# Altium integrated library Actel Axcelerator.IntLib: 162 symbols (part 27 of 42)
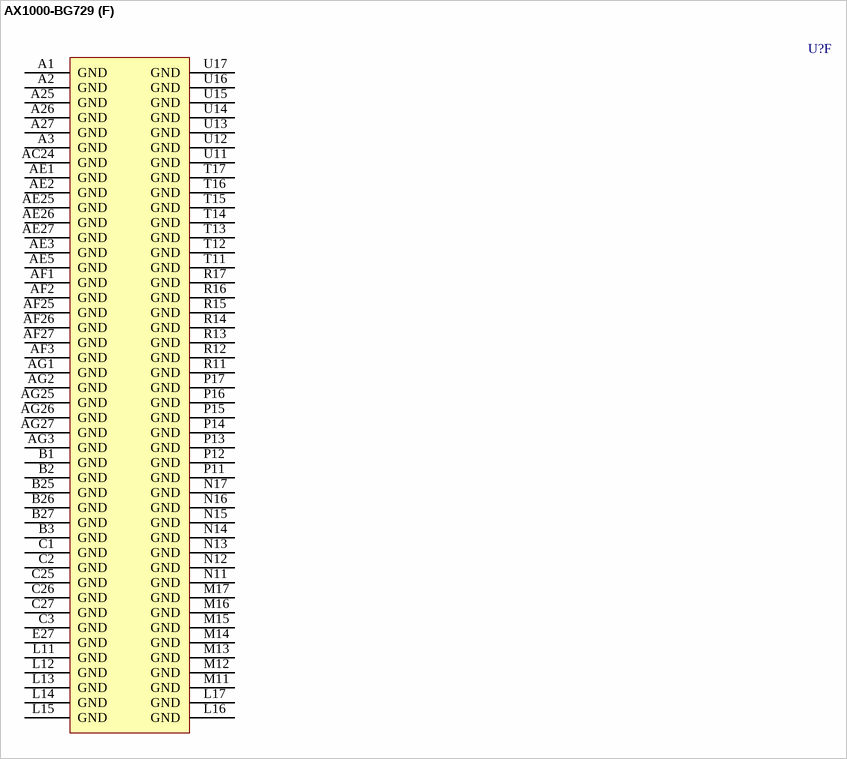
[diagram p425: symbol AX1000-BG729]

## AX1000-BG729
designator U?
Axcelerator AX1000 FPGA, 516 I/Os, 729-Pin PBGA, Speed Grade 1, Commercial Grade; DatasheetVersion: v2.8, Oct-2009; PackageVersion: ver11.2, Nov-2009; PackageReference: BG729; PackageDescription: 729-Ball Plastic Ball Grid Array (BG729); Code_JEDEC: MS-034-BAR-1; Code_IPC: BGA127P27X27-729; ComponentLink1Description: Manufacturer URL; ComponentLink1URL: http://www.actel.com/; ComponentLink2Description: Axcelerator Datasheet; ComponentLink2URL: http://www.actel.com/documents/AX_DS.pdf; ComponentLink3Description: Package Mechanical Drawings; ComponentLink3URL: http://www.actel.com/documents/PckgMechDrwngs.pdf; ComponentLink4Description: Axcelerator Documents; ComponentLink4URL: http://www.actel.com/products/axcelerator/docs.aspx
footprint BG729 (BGA, 729-Leads, Body 35x35mm, Pitch 1.27mm)
part A pins: A5 IO08PB0F0 (io), A6 IO08NB0F0 (io), A7 IO16PB0F1 (io), A8 IO16NB0F1 (io), A9 IO22PB0F2 (io), A10 IO22NB0F2 (io), A12 IO29NB0F2 (io), A16 IO34PB1F3 (io), A17 IO39PB1F3 (io), A18 IO39NB1F3 (io), A19 IO41PB1F4 (io), A20 IO46PB1F4 (io), A21 IO51PB1F4 (io), A22 IO51NB1F4 (io), A23 IO58PB1F5 (io), B5 IO07NB0F0 (io), B6 IO11PB0F0 (io), B7 IO11NB0F0 (io), B8 IO17PB0F1 (io), B9 IO17NB0F1 (io), B10 IO23PB0F2 (io), B11 IO23NB0F2 (io), B12 IO29PB0F2 (io), B14 IO32PB1F3/HCLKCP (io), B16 IO34NB1F3 (io), B17 IO38PB1F3 (io), B18 IO38NB1F3 (io), B19 IO41NB1F4 (io), B20 IO46NB1F4 (io), B21 IO52PB1F4 (io), B22 IO52NB1F4 (io), B23 IO58NB1F5 (io), C5 IO07PB0F0 (io), C6 IO06NB0F0 (io), C7 IO12PB0F1 (io), C8 IO12NB0F1 (io), C9 IO18PB0F1 (io), C10 IO18NB0F1 (io), C11 IO25PB0F2 (io), C12 IO25NB0F2 (io), C13 IO30NB0F2/HCLKAN (io), C14 IO32NB1F3/HCLKCN (io), C16 IO37PB1F3 (io), C17 IO37NB1F3 (io), C18 IO42PB1F4 (io), C19 IO42NB1F4 (io), C20 IO47PB1F4 (io), C21 IO47NB1F4 (io), C22 IO57PB1F5 (io), C23 IO59PB1F5 (io), D5 IO03NB0F0 (io), D6 IO06PB0F0 (io), D7 IO02NB0F0 (io), D8 IO15PB0F1 (io), D9 IO15NB0F1 (io), D10 IO21PB0F1 (io), D11 IO21NB0F1 (io), D12 IO26PB0F2 (io), D13 IO30PB0F2/HCLKAP (io), D15 IO33PB1F3/HCLKDP (io), D16 IO33NB1F3/HCLKDN (io), D17 IO43PB1F4 (io), D18 IO43NB1F4 (io), D19 IO50PB1F4 (io), D20 IO50NB1F4 (io), D21 IO55PB1F5 (io), D22 IO57NB1F5 (io), D23 IO59NB1F5 (io), E5 IO03PB0F0 (io), E6 IO00NB0F0 (io), E7 IO02PB0F0 (io), E8 IO05NB0F0 (io), E9 IO09NB0F0 (io), E10 IO13NB0F1 (io), E11 IO19NB0F1 (io), E12 IO26NB0F2 (io), E13 IO27NB0F2 (io), E14 IO31PB0F2/HCLKBP (io), E15 IO35NB1F3 (io), E17 IO45PB1F4 (io), E18 IO49PB1F4 (io), E19 IO53PB1F4 (io), E20 IO54PB1F5 (io), E21 IO55NB1F5 (io), E22 IO61PB1F5 (io), E23 IO61NB1F5 (io), F6 IO00PB0F0 (io), F8 IO05PB0F0 (io), F9 IO09PB0F0 (io), F10 IO13PB0F1 (io), F11 IO19PB0F1 (io), F13 IO27PB0F2 (io), F14 IO31NB0F2/HCLKBN (io), F15 IO35PB1F3 (io), F17 IO45NB1F4 (io), F18 IO49NB1F4 (io), F19 IO53NB1F4 (io), F20 IO54NB1F5 (io), F21 IO62PB1F5 (io), F22 IO62NB1F5 (io), G7 IO01PB0F0 (io), G8 IO01NB0F0 (io), G9 IO04NB0F0 (io), G10 IO10NB0F0 (io), G11 IO14NB0F1 (io), G12 IO20NB0F1 (io), G13 IO24NB0F2 (io), G14 IO28NB0F2 (io), G15 IO36PB1F3 (io), G16 IO40PB1F3 (io), G17 IO44PB1F4 (io), G18 IO48PB1F4 (io), G19 IO56PB1F5 (io), G20 IO60PB1F5 (io), G21 IO60NB1F5 (io), H9 IO04PB0F0 (io), H10 IO10PB0F0 (io), H11 IO14PB0F1 (io), H12 IO20PB0F1 (io), H13 IO24PB0F2 (io), H14 IO28PB0F2 (io), H15 IO36NB1F3 (io), H16 IO40NB1F3 (io), H17 IO44NB1F4 (io), H18 IO48NB1F4 (io), H19 IO56NB1F5 (io), H20 IO63NB1F5 (io), J19 IO63PB1F5 (io)
part B pins: AA22 IO126NB3F11 (io), AA23 IO126PB3F11 (io), AA24 IO121NB3F11 (io), AA25 IO121PB3F11 (io), AA26 IO119NB3F11 (io), AA27 IO119PB3F11 (io), AB24 IO125NB3F11 (io), AB25 IO125PB3F11 (io), AB26 IO123NB3F11 (io), AB27 IO123PB3F11 (io), AC26 IO127NB3F11 (io), AC27 IO127PB3F11 (io), E25 IO67PB2F6 (io), E26 IO67NB2F6 (io), F23 IO65PB2F6 (io), F24 IO65NB2F6 (io), F25 IO66PB2F6 (io), F26 IO66NB2F6 (io), F27 IO75PB2F7 (io), G23 IO69PB2F6 (io), G24 IO69NB2F6 (io), G25 IO71PB2F6 (io), G26 IO71NB2F6 (io), G27 IO75NB2F7 (io), H21 IO64PB2F6 (io), H22 IO68PB2F6 (io), H23 IO73PB2F6 (io), H24 IO73NB2F6 (io), H25 IO77PB2F7 (io), H26 IO77NB2F7 (io), H27 IO81PB2F7 (io), J20 IO70PB2F6 (io), J21 IO64NB2F6 (io), J22 IO68NB2F6 (io), J23 IO72PB2F6 (io), J24 IO72NB2F6 (io), J25 IO79PB2F7 (io), J26 IO79NB2F7 (io), J27 IO81NB2F7 (io), K20 IO70NB2F6 (io), K21 IO74PB2F7 (io), K22 IO76PB2F7 (io), K23 IO76NB2F7 (io), K24 IO78PB2F7 (io), K25 IO78NB2F7 (io), K26 IO85PB2F8 (io), K27 IO85NB2F8 (io), L20 IO80PB2F7 (io), L21 IO74NB2F7 (io), L22 IO82PB2F7 (io), L23 IO82NB2F7 (io), L24 IO83PB2F7 (io), L25 IO83NB2F7 (io), L26 IO88PB2F8 (io), L27 IO88NB2F8 (io), M20 IO80NB2F7 (io), M21 IO84PB2F7 (io), M22 IO86PB2F8 (io), M23 IO86NB2F8 (io), M24 IO87PB2F8 (io), M25 IO87NB2F8 (io), M26 IO89PB2F8 (io), M27 IO89NB2F8 (io), N19 IO94NB2F8 (io), N20 IO94PB2F8 (io), N21 IO84NB2F7 (io), N22 IO90PB2F8 (io), N23 IO90NB2F8 (io), N24 IO91PB2F8 (io), N25 IO91NB2F8 (io), N26 IO92PB2F8 (io), N27 IO92NB2F8 (io), P19 IO106PB3F9 (io), P20 IO98PB3F9 (io), P21 IO98NB3F9 (io), P22 IO95PB2F8 (io), P23 IO95NB2F8 (io), P24 IO96PB3F9 (io), P25 IO96NB3F9 (io), P26 IO93NB2F8 (io), P27 IO93PB2F8 (io), R19 IO106NB3F9 (io), R20 IO102NB3F9 (io), R21 IO102PB3F9 (io), R22 IO103PB3F9 (io), R23 IO103NB3F9 (io), R24 IO99NB3F9 (io), R25 IO99PB3F9 (io), R26 IO97NB3F9 (io), R27 IO97PB3F9 (io), T20 IO110NB3F10 (io), T21 IO110PB3F10 (io), T22 IO108PB3F10 (io), T23 IO108NB3F10 (io), T24 IO101NB3F9 (io), T25 IO101PB3F9 (io), T26 IO100NB3F9 (io), T27 IO100PB3F9 (io), U20 IO114NB3F10 (io), U21 IO114PB3F10 (io), U22 IO112NB3F10 (io), U23 IO112PB3F10 (io), U24 IO105NB3F9 (io), U25 IO105PB3F9 (io), U26 IO104NB3F9 (io), U27 IO104PB3F9 (io), V20 IO118NB3F11 (io), V21 IO118PB3F11 (io), V22 IO116NB3F10 (io), V23 IO116PB3F10 (io), V24 IO109NB3F10 (io), V25 IO109PB3F10 (io), V26 IO107NB3F10 (io), V27 IO107PB3F10 (io), W19 IO128PB3F11 (io), W20 IO122NB3F11 (io), W21 IO122PB3F11 (io), W22 IO120NB3F11 (io), W23 IO120PB3F11 (io), W24 IO115NB3F10 (io), W25 IO115PB3F10 (io), W26 IO111NB3F10 (io), W27 IO111PB3F10 (io), Y20 IO128NB3F11 (io), Y22 IO124NB3F11 (io), Y23 IO124PB3F11 (io), Y24 IO117NB3F10 (io), Y25 IO117PB3F10 (io), Y26 IO113NB3F10 (io), Y27 IO113PB3F10 (io)
part C pins: AA6 IO191NB5F17 (io), AA7 IO191PB5F17 (io), AA8 IO192PB5F17 (io), AA9 IO187PB5F17 (io), AA10 IO181PB5F17 (io), AA11 IO177PB5F16 (io), AA12 IO173PB5F16 (io), AA13 IO167PB5F15 (io), AA14 IO163PB5F15 (io), AA15 IO157PB4F14 (io), AA16 IO151NB4F13 (io), AA17 IO147PB4F13 (io), AA18 IO141PB4F13 (io), AA19 IO137PB4F12 (io), AA20 IO129NB4F12 (io), AB6 IO189NB5F17 (io), AB7 IO186NB5F17 (io), AB8 IO186PB5F17 (io), AB9 IO180NB5F16 (io), AB10 IO174NB5F16 (io), AB11 IO170NB5F15 (io), AB15 IO155NB4F14 (io), AB16 IO153PB4F14 (io), AB17 IO149PB4F13 (io), AB18 IO146PB4F13 (io), AB19 IO144PB4F13 (io), AB20 IO135PB4F12 (io), AB21 IO134PB4F12 (io), AB22 IO130NB4F12 (io), AB23 IO130PB4F12 (io), AC6 IO189PB5F17 (io), AC7 IO184NB5F17 (io), AC8 IO184PB5F17 (io), AC9 IO180PB5F16 (io), AC10 IO174PB5F16 (io), AC11 IO170PB5F15 (io), AC13 IO162NB5F15/CLKHN (io), AC15 IO155PB4F14 (io), AC16 IO153NB4F14 (io), AC17 IO149NB4F13 (io), AC18 IO146NB4F13 (io), AC19 IO144NB4F13 (io), AC20 IO135NB4F12 (io), AC21 IO134NB4F12 (io), AC22 IO131NB4F12 (io), AC23 IO131PB4F12 (io), AD6 IO188NB5F17 (io), AD7 IO183NB5F17 (io), AD8 IO179NB5F16 (io), AD9 IO176NB5F16 (io), AD10 IO172NB5F16 (io), AD11 IO168NB5F15 (io), AD12 IO166NB5F15 (io), AD13 IO162PB5F15/CLKHP (io), AD14 IO160NB4F14/CLKFN (io), AD15 IO160PB4F14/CLKFP (io), AD18 IO145NB4F13 (io), AD19 IO145PB4F13 (io), AD20 IO142PB4F13 (io), AD21 IO136NB4F12 (io), AD22 IO136PB4F12 (io), AD23 IO132NB4F12 (io), AD24 IO132PB4F12 (io), AE6 IO188PB5F17 (io), AE7 IO183PB5F17 (io), AE8 IO179PB5F16 (io), AE9 IO176PB5F16 (io), AE10 IO172PB5F16 (io), AE11 IO168PB5F15 (io), AE12 IO166PB5F15 (io), AE13 IO164NB5F15 (io), AE14 IO161NB5F15/CLKGN (io), AE15 IO161PB5F15/CLKGP (io), AE16 IO156NB4F14 (io), AE17 IO156PB4F14 (io), AE18 IO150NB4F13 (io), AE19 IO150PB4F13 (io), AE20 IO142NB4F13 (io), AE21 IO138NB4F12 (io), AE22 IO138PB4F12 (io), AE23 IO133PB4F12 (io), AF5 IO190NB5F17 (io), AF6 IO185NB5F17 (io), AF7 IO182NB5F17 (io), AF8 IO178NB5F16 (io), AF9 IO175NB5F16 (io), AF10 IO171NB5F16 (io), AF11 IO169PB5F15 (io), AF12 IO165NB5F15 (io), AF13 IO164PB5F15 (io), AF15 IO159NB4F14/CLKEN (io), AF16 IO159PB4F14/CLKEP (io), AF17 IO154NB4F14 (io), AF18 IO154PB4F14 (io), AF19 IO148NB4F13 (io), AF20 IO148PB4F13 (io), AF21 IO139NB4F13 (io), AF22 IO139PB4F13 (io), AF23 IO133NB4F12 (io), AG5 IO190PB5F17 (io), AG6 IO185PB5F17 (io), AG7 IO182PB5F17 (io), AG8 IO178PB5F16 (io), AG9 IO175PB5F16 (io), AG10 IO171PB5F16 (io), AG11 IO169NB5F15 (io), AG12 IO165PB5F15 (io), AG16 IO158NB4F14 (io), AG17 IO158PB4F14 (io), AG18 IO152NB4F14 (io), AG19 IO152PB4F14 (io), AG20 IO143NB4F13 (io), AG21 IO143PB4F13 (io), AG22 IO140NB4F13 (io), AG23 IO140PB4F13 (io), Y8 IO192NB5F17 (io), Y9 IO187NB5F17 (io), Y10 IO181NB5F17 (io), Y11 IO177NB5F16 (io), Y12 IO173NB5F16 (io), Y13 IO167NB5F15 (io), Y14 IO163NB5F15 (io), Y15 IO157NB4F14 (io), Y16 IO151PB4F13 (io), Y17 IO147NB4F13 (io), Y18 IO141NB4F13 (io), Y19 IO137NB4F12 (io), Y21 IO129PB4F12 (io)
part D pins: AA1 IO207PB6F19 (io), AA2 IO204NB6F19 (io), AA3 IO203PB6F19 (io), AA4 IO200NB6F18 (io), AA5 IO200PB6F18 (io), AB1 IO202NB6F18 (io), AB2 IO204PB6F19 (io), AB3 IO198NB6F18 (io), AB4 IO198PB6F18 (io), AB5 IO194NB6F18 (io), AC1 IO202PB6F18 (io), AC2 IO195NB6F18 (io), AC3 IO195PB6F18 (io), AC4 IO196NB6F18 (io), AC5 IO194PB6F18 (io), AD4 IO196PB6F18 (io), F1 IO253PB7F23 (io), F2 IO253NB7F23 (io), F3 IO256NB7F23 (io), F4 IO256PB7F23 (io), F5 IO255NB7F23 (io), G1 IO250PB7F23 (io), G2 IO250NB7F23 (io), G3 IO252PB7F23 (io), G4 IO252NB7F23 (io), G5 IO255PB7F23 (io), G6 IO254NB7F23 (io), H1 IO245PB7F22 (io), H2 IO245NB7F22 (io), H3 IO246PB7F22 (io), H4 IO246NB7F22 (io), H5 IO249NB7F23 (io), H6 IO254PB7F23 (io), H7 IO257NB7F23 (io), J1 IO243PB7F22 (io), J2 IO243NB7F22 (io), J3 IO244PB7F22 (io), J4 IO244NB7F22 (io), J5 IO249PB7F23 (io), J6 IO248NB7F23 (io), J7 IO257PB7F23 (io), K1 IO240PB7F22 (io), K2 IO240NB7F22 (io), K3 IO241PB7F22 (io), K4 IO241NB7F22 (io), K5 IO242NB7F22 (io), K6 IO248PB7F23 (io), K7 IO251PB7F23 (io), K8 IO251NB7F23 (io), L1 IO236PB7F22 (io), L2 IO236NB7F22 (io), L3 IO237PB7F22 (io), L4 IO237NB7F22 (io), L5 IO242PB7F22 (io), L6 IO238NB7F22 (io), L7 IO247PB7F23 (io), L8 IO247NB7F23 (io), M1 IO233PB7F21 (io), M2 IO233NB7F21 (io), M3 IO234PB7F21 (io), M4 IO234NB7F21 (io), M5 IO235NB7F21 (io), M6 IO238PB7F22 (io), M7 IO239PB7F22 (io), M8 IO239NB7F22 (io), N1 IO229PB7F21 (io), N2 IO229NB7F21 (io), N3 IO232PB7F21 (io), N4 IO232NB7F21 (io), N5 IO235PB7F21 (io), N6 IO230NB7F21 (io), N7 IO227NB7F21 (io), N8 IO231PB7F21 (io), N9 IO231NB7F21 (io), P1 IO225NB7F21 (io), P2 IO226PB7F21 (io), P3 IO226NB7F21 (io), P4 IO228PB7F21 (io), P5 IO228NB7F21 (io), P6 IO230PB7F21 (io), P7 IO227PB7F21 (io), P8 IO223NB6F20 (io), P9 IO223PB6F20 (io), R1 IO225PB7F21 (io), R2 IO222NB6F20 (io), R3 IO224NB6F20 (io), R4 IO224PB6F20 (io), R5 IO220NB6F20 (io), R6 IO220PB6F20 (io), R7 IO217NB6F20 (io), R8 IO217PB6F20 (io), R9 IO213NB6F19 (io), T1 IO219NB6F20 (io), T2 IO222PB6F20 (io), T3 IO221NB6F20 (io), T4 IO221PB6F20 (io), T5 IO215NB6F20 (io), T6 IO215PB6F20 (io), T7 IO209NB6F19 (io), T8 IO213PB6F19 (io), U1 IO219PB6F20 (io), U2 IO218NB6F20 (io), U4 IO214NB6F20 (io), U5 IO211NB6F19 (io), U6 IO211PB6F19 (io), U7 IO209PB6F19 (io), U8 IO205NB6F19 (io), V1 IO216NB6F20 (io), V2 IO218PB6F20 (io), V3 IO212NB6F19 (io), V4 IO214PB6F20 (io), V5 IO206NB6F19 (io), V6 IO206PB6F19 (io), V7 IO199NB6F18 (io), V8 IO205PB6F19 (io), W1 IO216PB6F20 (io), W2 IO210NB6F19 (io), W3 IO212PB6F19 (io), W4 IO208NB6F19 (io), W5 IO201NB6F18 (io), W6 IO201PB6F18 (io), W7 IO199PB6F18 (io), W8 IO193NB6F18 (io), Y1 IO207NB6F19 (io), Y2 IO210PB6F19 (io), Y3 IO203NB6F19 (io), Y4 IO208PB6F19 (io), Y5 IO197NB6F18 (io), Y6 IO197PB6F18 (io), Y7 IO193PB6F18 (io)
part E pins: A4 VCCIB0 (power), A11 VCCDA (power), A13 VCCPLA (power), A14 VCOMPLB (power), A15 VCOMPLC (power), A24 VCCIB1 (power), AA21 VCCA (power), AB12 VCCDA (power), AB13 VCCPLG (power), AB14 PRD (out), AC12 VCCDA (power), AC14 VCOMPLG (power), AC25 VCCDA (power), AD1 VCCIB6 (power), AD2 VCCIB6 (power), AD3 VCCIB6 (power), AD5 VCCA (power), AD16 VCCDA (power), AD17 VCCDA (power), AD25 VCCIB3 (power), AD26 VCCIB3 (power), AD27 VCCIB3 (power), AE4 VCCIB5 (power), AE24 VCCIB4 (power), AF4 VCCIB5 (power), AF14 VCCPLF (power), AF24 VCCIB4 (power), AG4 VCCIB5 (power), AG13 VCCPLH (power), AG14 VCCPLE (power), AG15 VCOMPLE (power), AG24 VCCIB4 (power), B4 VCCIB0 (power), B13 VCOMPLA (power), B15 VCCPLC (power), B24 VCCIB1 (power), C4 VCCIB0 (power), C15 VCCPLD (power), C24 VCCIB1 (power), D1 VCCIB7 (power), D2 VCCIB7 (power), D3 VCCIB7 (power), D4 TDI (in), D14 PRB (out), D24 VPUMP (power), D25 VCCIB2 (power), D26 VCCIB2 (power), D27 VCCIB2 (power), E1 VCCA (power), E2 VCCDA (power), E3 ~{TRST} (in), E4 TCK (in), E16 VCCDA (power), E24 VCCDA (power), F7 VCCDA (power), F12 VCCDA (power), F16 VCCDA (power), G22 VCCA (power), H8 TMS (in), J8 LP (in), J9 TDO (hiz), J10 VCCIB0 (power), J11 VCCIB0 (power), J12 VCCIB0 (power), J13 VCCPLB (power), J14 PRA (out), J15 VCOMPLD (power), J16 VCCIB1 (power), J17 VCCIB1 (power), J18 VCCIB1 (power), K9 VCCIB7 (power), K10 VCCA (power), K11 VCCA (power), K12 VCCIB0 (power), K13 VCCIB0 (power), K14 VCCDA (power), K15 VCCIB1 (power), K16 VCCIB1 (power), K17 VCCA (power), K18 VCCA (power), K19 VCCIB2 (power), L9 VCCIB7 (power), L10 VCCA (power), L18 VCCA (power), L19 VCCIB2 (power), M9 VCCIB7 (power), M10 VCCIB7 (power), M18 VCCIB2 (power), M19 VCCIB2 (power), N10 VCCIB7 (power), N18 VCCIB2 (power), P10 VCCDA (power), P18 VCCDA (power), R10 VCCIB6 (power), R18 VCCIB3 (power), T9 VCCIB6 (power), T10 VCCIB6 (power), T18 VCCIB3 (power), T19 VCCIB3 (power), U3 NC, U9 VCCIB6 (power), U10 VCCA (power), U18 VCCA (power), U19 VCCIB3 (power), V9 VCCIB6 (power), V10 VCCA (power), V11 VCCA (power), V12 VCCIB5 (power), V13 VCCIB5 (power), V14 PRC (out), V15 VCCIB4 (power), V16 VCCIB4 (power), V17 VCCA (power), V18 VCCA (power), V19 VCCIB3 (power), W9 VCCDA (power), W10 VCCIB5 (power), W11 VCCIB5 (power), W12 VCCIB5 (power), W13 VCOMPLH (power), W14 VCCDA (power), W15 VCOMPLF (power), W16 VCCIB4 (power), W17 VCCIB4 (power), W18 VCCIB4 (power)
part F pins: A1 GND (power), A2 GND (power), A3 GND (power), A25 GND (power), A26 GND (power), A27 GND (power), AC24 GND (power), AE1 GND (power), AE2 GND (power), AE3 GND (power), AE5 GND (power), AE25 GND (power), AE26 GND (power), AE27 GND (power), AF1 GND (power), AF2 GND (power), AF3 GND (power), AF25 GND (power), AF26 GND (power), AF27 GND (power), AG1 GND (power), AG2 GND (power), AG3 GND (power), AG25 GND (power), AG26 GND (power), AG27 GND (power), B1 GND (power), B2 GND (power), B3 GND (power), B25 GND (power), B26 GND (power), B27 GND (power), C1 GND (power), C2 GND (power), C3 GND (power), C25 GND (power), C26 GND (power), C27 GND (power), E27 GND (power), L11 GND (power), L12 GND (power), L13 GND (power), L14 GND (power), L15 GND (power), L16 GND (power), L17 GND (power), M11 GND (power), M12 GND (power), M13 GND (power), M14 GND (power), M15 GND (power), M16 GND (power), M17 GND (power), N11 GND (power), N12 GND (power), N13 GND (power), N14 GND (power), N15 GND (power), N16 GND (power), N17 GND (power), P11 GND (power), P12 GND (power), P13 GND (power), P14 GND (power), P15 GND (power), P16 GND (power), P17 GND (power), R11 GND (power), R12 GND (power), R13 GND (power), R14 GND (power), R15 GND (power), R16 GND (power), R17 GND (power), T11 GND (power), T12 GND (power), T13 GND (power), T14 GND (power), T15 GND (power), T16 GND (power), T17 GND (power), U11 GND (power), U12 GND (power), U13 GND (power), U14 GND (power), U15 GND (power), U16 GND (power), U17 GND (power)
part A text: Bank 1; Bank 0
part B text: Bank 3; Bank 2
part C text: Bank 5; Bank 4
part D text: Bank 7; Bank 6

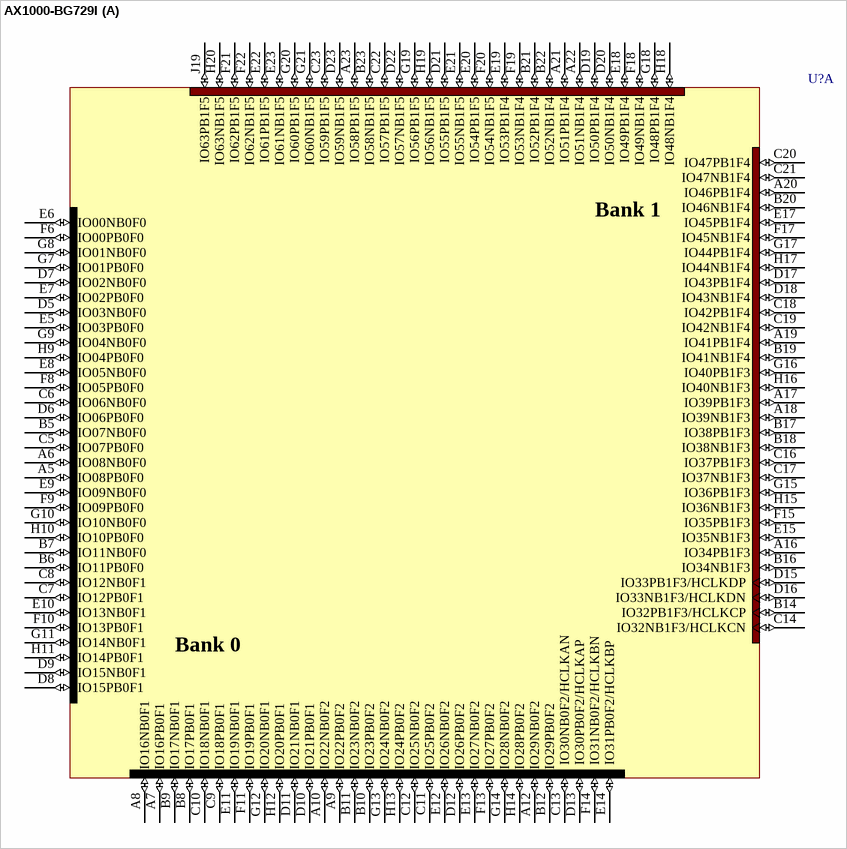
[diagram p312: symbol AX1000-BG729I]

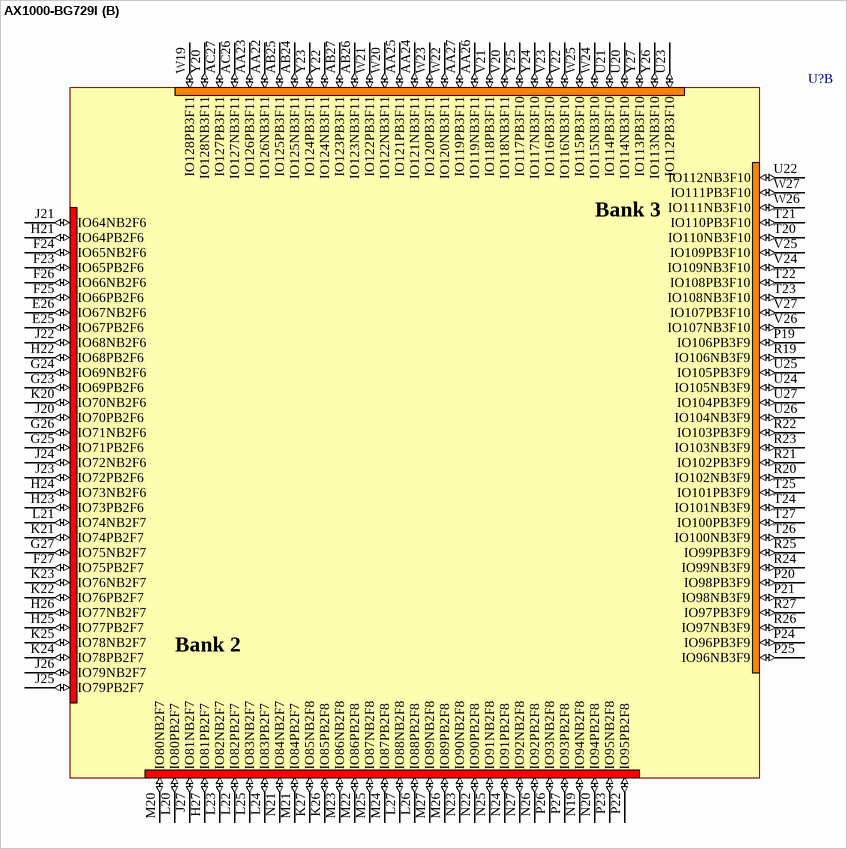
[diagram p313: symbol AX1000-BG729I]

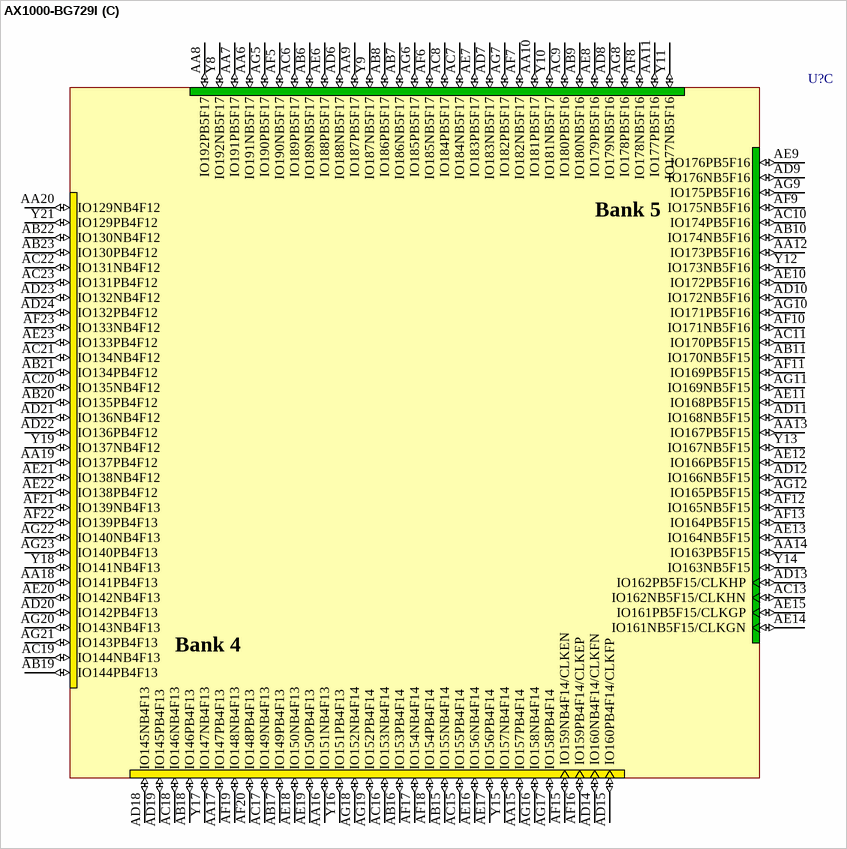
[diagram p314: symbol AX1000-BG729I]

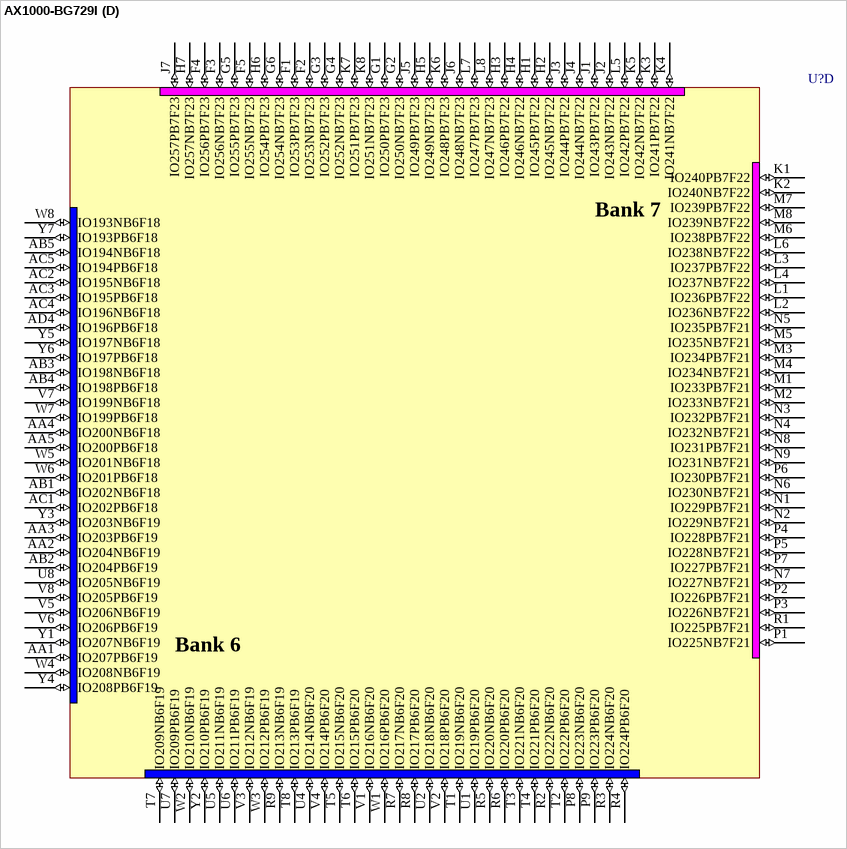
[diagram p315: symbol AX1000-BG729I]

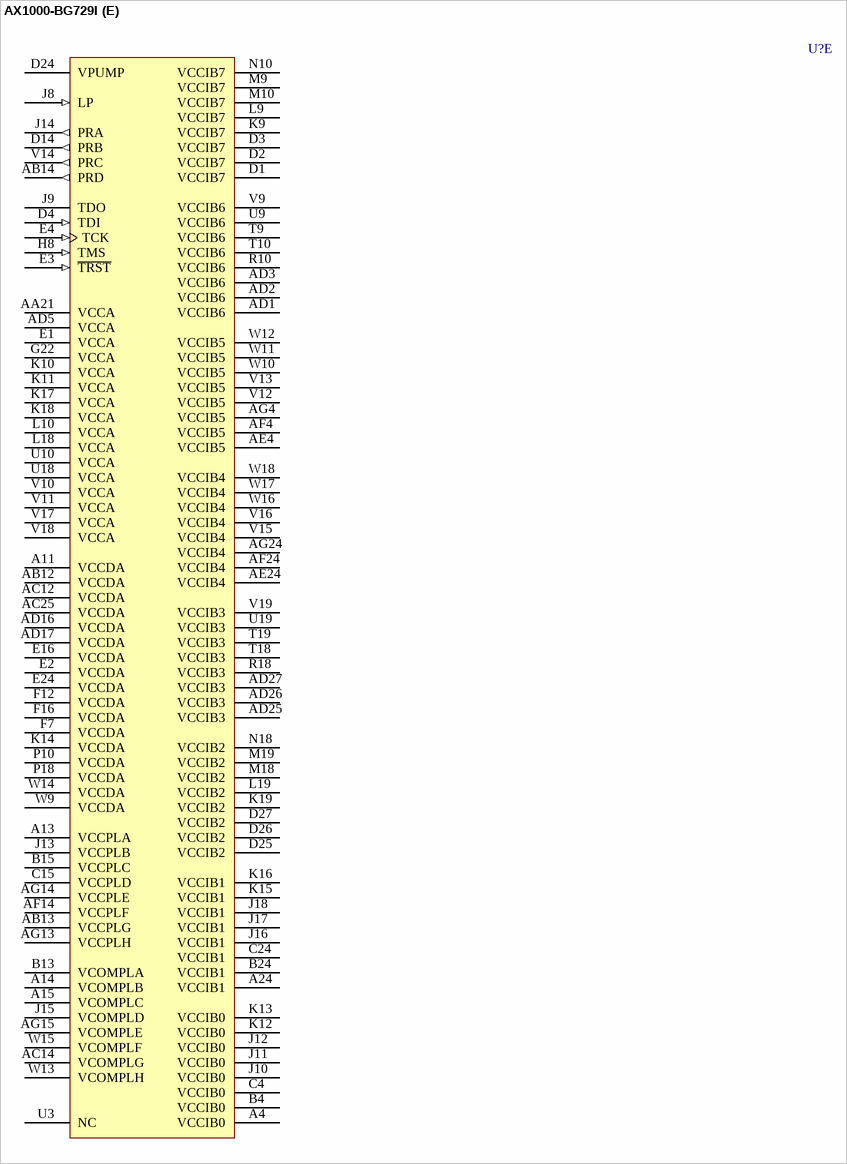
[diagram p316: symbol AX1000-BG729I]

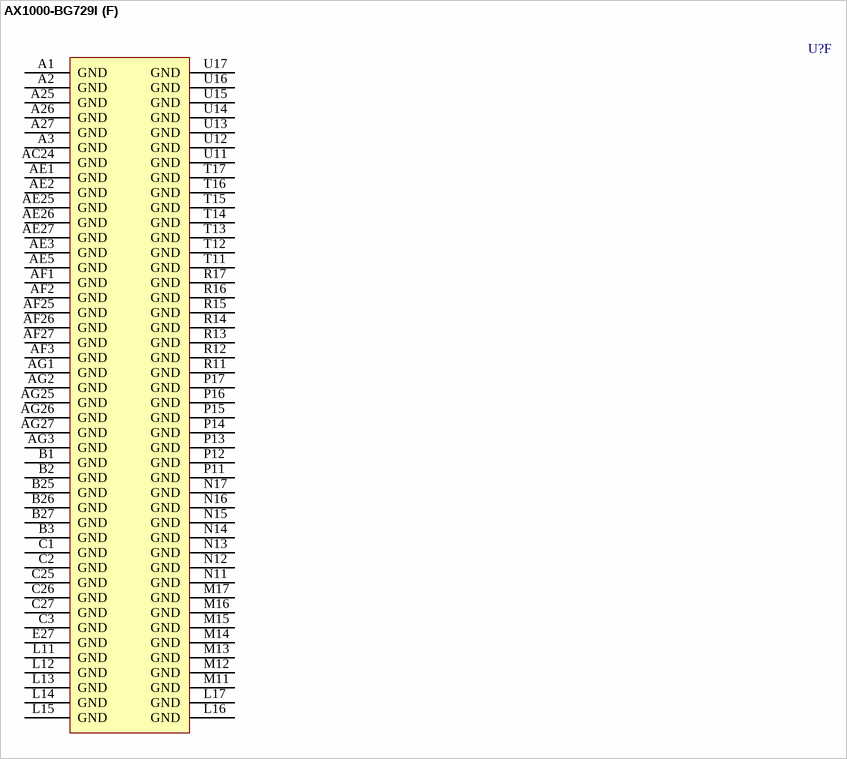
[diagram p317: symbol AX1000-BG729I]

## AX1000-BG729I
designator U?
Axcelerator AX1000 FPGA, 516 I/Os, 729-Pin PBGA, Speed Grade 1, Industrial Grade; DatasheetVersion: v2.8, Oct-2009; PackageVersion: ver11.2, Nov-2009; PackageReference: BG729; PackageDescription: 729-Ball Plastic Ball Grid Array (BG729); Code_JEDEC: MS-034-BAR-1; Code_IPC: BGA127P27X27-729; ComponentLink1Description: Manufacturer URL; ComponentLink1URL: http://www.actel.com/; ComponentLink2Description: Axcelerator Datasheet; ComponentLink2URL: http://www.actel.com/documents/AX_DS.pdf; ComponentLink3Description: Package Mechanical Drawings; ComponentLink3URL: http://www.actel.com/documents/PckgMechDrwngs.pdf; ComponentLink4Description: Axcelerator Documents; ComponentLink4URL: http://www.actel.com/products/axcelerator/docs.aspx
footprint BG729 (BGA, 729-Leads, Body 35x35mm, Pitch 1.27mm)
part A pins: A5 IO08PB0F0 (io), A6 IO08NB0F0 (io), A7 IO16PB0F1 (io), A8 IO16NB0F1 (io), A9 IO22PB0F2 (io), A10 IO22NB0F2 (io), A12 IO29NB0F2 (io), A16 IO34PB1F3 (io), A17 IO39PB1F3 (io), A18 IO39NB1F3 (io), A19 IO41PB1F4 (io), A20 IO46PB1F4 (io), A21 IO51PB1F4 (io), A22 IO51NB1F4 (io), A23 IO58PB1F5 (io), B5 IO07NB0F0 (io), B6 IO11PB0F0 (io), B7 IO11NB0F0 (io), B8 IO17PB0F1 (io), B9 IO17NB0F1 (io), B10 IO23PB0F2 (io), B11 IO23NB0F2 (io), B12 IO29PB0F2 (io), B14 IO32PB1F3/HCLKCP (io), B16 IO34NB1F3 (io), B17 IO38PB1F3 (io), B18 IO38NB1F3 (io), B19 IO41NB1F4 (io), B20 IO46NB1F4 (io), B21 IO52PB1F4 (io), B22 IO52NB1F4 (io), B23 IO58NB1F5 (io), C5 IO07PB0F0 (io), C6 IO06NB0F0 (io), C7 IO12PB0F1 (io), C8 IO12NB0F1 (io), C9 IO18PB0F1 (io), C10 IO18NB0F1 (io), C11 IO25PB0F2 (io), C12 IO25NB0F2 (io), C13 IO30NB0F2/HCLKAN (io), C14 IO32NB1F3/HCLKCN (io), C16 IO37PB1F3 (io), C17 IO37NB1F3 (io), C18 IO42PB1F4 (io), C19 IO42NB1F4 (io), C20 IO47PB1F4 (io), C21 IO47NB1F4 (io), C22 IO57PB1F5 (io), C23 IO59PB1F5 (io), D5 IO03NB0F0 (io), D6 IO06PB0F0 (io), D7 IO02NB0F0 (io), D8 IO15PB0F1 (io), D9 IO15NB0F1 (io), D10 IO21PB0F1 (io), D11 IO21NB0F1 (io), D12 IO26PB0F2 (io), D13 IO30PB0F2/HCLKAP (io), D15 IO33PB1F3/HCLKDP (io), D16 IO33NB1F3/HCLKDN (io), D17 IO43PB1F4 (io), D18 IO43NB1F4 (io), D19 IO50PB1F4 (io), D20 IO50NB1F4 (io), D21 IO55PB1F5 (io), D22 IO57NB1F5 (io), D23 IO59NB1F5 (io), E5 IO03PB0F0 (io), E6 IO00NB0F0 (io), E7 IO02PB0F0 (io), E8 IO05NB0F0 (io), E9 IO09NB0F0 (io), E10 IO13NB0F1 (io), E11 IO19NB0F1 (io), E12 IO26NB0F2 (io), E13 IO27NB0F2 (io), E14 IO31PB0F2/HCLKBP (io), E15 IO35NB1F3 (io), E17 IO45PB1F4 (io), E18 IO49PB1F4 (io), E19 IO53PB1F4 (io), E20 IO54PB1F5 (io), E21 IO55NB1F5 (io), E22 IO61PB1F5 (io), E23 IO61NB1F5 (io), F6 IO00PB0F0 (io), F8 IO05PB0F0 (io), F9 IO09PB0F0 (io), F10 IO13PB0F1 (io), F11 IO19PB0F1 (io), F13 IO27PB0F2 (io), F14 IO31NB0F2/HCLKBN (io), F15 IO35PB1F3 (io), F17 IO45NB1F4 (io), F18 IO49NB1F4 (io), F19 IO53NB1F4 (io), F20 IO54NB1F5 (io), F21 IO62PB1F5 (io), F22 IO62NB1F5 (io), G7 IO01PB0F0 (io), G8 IO01NB0F0 (io), G9 IO04NB0F0 (io), G10 IO10NB0F0 (io), G11 IO14NB0F1 (io), G12 IO20NB0F1 (io), G13 IO24NB0F2 (io), G14 IO28NB0F2 (io), G15 IO36PB1F3 (io), G16 IO40PB1F3 (io), G17 IO44PB1F4 (io), G18 IO48PB1F4 (io), G19 IO56PB1F5 (io), G20 IO60PB1F5 (io), G21 IO60NB1F5 (io), H9 IO04PB0F0 (io), H10 IO10PB0F0 (io), H11 IO14PB0F1 (io), H12 IO20PB0F1 (io), H13 IO24PB0F2 (io), H14 IO28PB0F2 (io), H15 IO36NB1F3 (io), H16 IO40NB1F3 (io), H17 IO44NB1F4 (io), H18 IO48NB1F4 (io), H19 IO56NB1F5 (io), H20 IO63NB1F5 (io), J19 IO63PB1F5 (io)
part B pins: AA22 IO126NB3F11 (io), AA23 IO126PB3F11 (io), AA24 IO121NB3F11 (io), AA25 IO121PB3F11 (io), AA26 IO119NB3F11 (io), AA27 IO119PB3F11 (io), AB24 IO125NB3F11 (io), AB25 IO125PB3F11 (io), AB26 IO123NB3F11 (io), AB27 IO123PB3F11 (io), AC26 IO127NB3F11 (io), AC27 IO127PB3F11 (io), E25 IO67PB2F6 (io), E26 IO67NB2F6 (io), F23 IO65PB2F6 (io), F24 IO65NB2F6 (io), F25 IO66PB2F6 (io), F26 IO66NB2F6 (io), F27 IO75PB2F7 (io), G23 IO69PB2F6 (io), G24 IO69NB2F6 (io), G25 IO71PB2F6 (io), G26 IO71NB2F6 (io), G27 IO75NB2F7 (io), H21 IO64PB2F6 (io), H22 IO68PB2F6 (io), H23 IO73PB2F6 (io), H24 IO73NB2F6 (io), H25 IO77PB2F7 (io), H26 IO77NB2F7 (io), H27 IO81PB2F7 (io), J20 IO70PB2F6 (io), J21 IO64NB2F6 (io), J22 IO68NB2F6 (io), J23 IO72PB2F6 (io), J24 IO72NB2F6 (io), J25 IO79PB2F7 (io), J26 IO79NB2F7 (io), J27 IO81NB2F7 (io), K20 IO70NB2F6 (io), K21 IO74PB2F7 (io), K22 IO76PB2F7 (io), K23 IO76NB2F7 (io), K24 IO78PB2F7 (io), K25 IO78NB2F7 (io), K26 IO85PB2F8 (io), K27 IO85NB2F8 (io), L20 IO80PB2F7 (io), L21 IO74NB2F7 (io), L22 IO82PB2F7 (io), L23 IO82NB2F7 (io), L24 IO83PB2F7 (io), L25 IO83NB2F7 (io), L26 IO88PB2F8 (io), L27 IO88NB2F8 (io), M20 IO80NB2F7 (io), M21 IO84PB2F7 (io), M22 IO86PB2F8 (io), M23 IO86NB2F8 (io), M24 IO87PB2F8 (io), M25 IO87NB2F8 (io), M26 IO89PB2F8 (io), M27 IO89NB2F8 (io), N19 IO94NB2F8 (io), N20 IO94PB2F8 (io), N21 IO84NB2F7 (io), N22 IO90PB2F8 (io), N23 IO90NB2F8 (io), N24 IO91PB2F8 (io), N25 IO91NB2F8 (io), N26 IO92PB2F8 (io), N27 IO92NB2F8 (io), P19 IO106PB3F9 (io), P20 IO98PB3F9 (io), P21 IO98NB3F9 (io), P22 IO95PB2F8 (io), P23 IO95NB2F8 (io), P24 IO96PB3F9 (io), P25 IO96NB3F9 (io), P26 IO93NB2F8 (io), P27 IO93PB2F8 (io), R19 IO106NB3F9 (io), R20 IO102NB3F9 (io), R21 IO102PB3F9 (io), R22 IO103PB3F9 (io), R23 IO103NB3F9 (io), R24 IO99NB3F9 (io), R25 IO99PB3F9 (io), R26 IO97NB3F9 (io), R27 IO97PB3F9 (io), T20 IO110NB3F10 (io), T21 IO110PB3F10 (io), T22 IO108PB3F10 (io), T23 IO108NB3F10 (io), T24 IO101NB3F9 (io), T25 IO101PB3F9 (io), T26 IO100NB3F9 (io), T27 IO100PB3F9 (io), U20 IO114NB3F10 (io), U21 IO114PB3F10 (io), U22 IO112NB3F10 (io), U23 IO112PB3F10 (io), U24 IO105NB3F9 (io), U25 IO105PB3F9 (io), U26 IO104NB3F9 (io), U27 IO104PB3F9 (io), V20 IO118NB3F11 (io), V21 IO118PB3F11 (io), V22 IO116NB3F10 (io), V23 IO116PB3F10 (io), V24 IO109NB3F10 (io), V25 IO109PB3F10 (io), V26 IO107NB3F10 (io), V27 IO107PB3F10 (io), W19 IO128PB3F11 (io), W20 IO122NB3F11 (io), W21 IO122PB3F11 (io), W22 IO120NB3F11 (io), W23 IO120PB3F11 (io), W24 IO115NB3F10 (io), W25 IO115PB3F10 (io), W26 IO111NB3F10 (io), W27 IO111PB3F10 (io), Y20 IO128NB3F11 (io), Y22 IO124NB3F11 (io), Y23 IO124PB3F11 (io), Y24 IO117NB3F10 (io), Y25 IO117PB3F10 (io), Y26 IO113NB3F10 (io), Y27 IO113PB3F10 (io)
part C pins: AA6 IO191NB5F17 (io), AA7 IO191PB5F17 (io), AA8 IO192PB5F17 (io), AA9 IO187PB5F17 (io), AA10 IO181PB5F17 (io), AA11 IO177PB5F16 (io), AA12 IO173PB5F16 (io), AA13 IO167PB5F15 (io), AA14 IO163PB5F15 (io), AA15 IO157PB4F14 (io), AA16 IO151NB4F13 (io), AA17 IO147PB4F13 (io), AA18 IO141PB4F13 (io), AA19 IO137PB4F12 (io), AA20 IO129NB4F12 (io), AB6 IO189NB5F17 (io), AB7 IO186NB5F17 (io), AB8 IO186PB5F17 (io), AB9 IO180NB5F16 (io), AB10 IO174NB5F16 (io), AB11 IO170NB5F15 (io), AB15 IO155NB4F14 (io), AB16 IO153PB4F14 (io), AB17 IO149PB4F13 (io), AB18 IO146PB4F13 (io), AB19 IO144PB4F13 (io), AB20 IO135PB4F12 (io), AB21 IO134PB4F12 (io), AB22 IO130NB4F12 (io), AB23 IO130PB4F12 (io), AC6 IO189PB5F17 (io), AC7 IO184NB5F17 (io), AC8 IO184PB5F17 (io), AC9 IO180PB5F16 (io), AC10 IO174PB5F16 (io), AC11 IO170PB5F15 (io), AC13 IO162NB5F15/CLKHN (io), AC15 IO155PB4F14 (io), AC16 IO153NB4F14 (io), AC17 IO149NB4F13 (io), AC18 IO146NB4F13 (io), AC19 IO144NB4F13 (io), AC20 IO135NB4F12 (io), AC21 IO134NB4F12 (io), AC22 IO131NB4F12 (io), AC23 IO131PB4F12 (io), AD6 IO188NB5F17 (io), AD7 IO183NB5F17 (io), AD8 IO179NB5F16 (io), AD9 IO176NB5F16 (io), AD10 IO172NB5F16 (io), AD11 IO168NB5F15 (io), AD12 IO166NB5F15 (io), AD13 IO162PB5F15/CLKHP (io), AD14 IO160NB4F14/CLKFN (io), AD15 IO160PB4F14/CLKFP (io), AD18 IO145NB4F13 (io), AD19 IO145PB4F13 (io), AD20 IO142PB4F13 (io), AD21 IO136NB4F12 (io), AD22 IO136PB4F12 (io), AD23 IO132NB4F12 (io), AD24 IO132PB4F12 (io), AE6 IO188PB5F17 (io), AE7 IO183PB5F17 (io), AE8 IO179PB5F16 (io), AE9 IO176PB5F16 (io), AE10 IO172PB5F16 (io), AE11 IO168PB5F15 (io), AE12 IO166PB5F15 (io), AE13 IO164NB5F15 (io), AE14 IO161NB5F15/CLKGN (io), AE15 IO161PB5F15/CLKGP (io), AE16 IO156NB4F14 (io), AE17 IO156PB4F14 (io), AE18 IO150NB4F13 (io), AE19 IO150PB4F13 (io), AE20 IO142NB4F13 (io), AE21 IO138NB4F12 (io), AE22 IO138PB4F12 (io), AE23 IO133PB4F12 (io), AF5 IO190NB5F17 (io), AF6 IO185NB5F17 (io), AF7 IO182NB5F17 (io), AF8 IO178NB5F16 (io), AF9 IO175NB5F16 (io), AF10 IO171NB5F16 (io), AF11 IO169PB5F15 (io), AF12 IO165NB5F15 (io), AF13 IO164PB5F15 (io), AF15 IO159NB4F14/CLKEN (io), AF16 IO159PB4F14/CLKEP (io), AF17 IO154NB4F14 (io), AF18 IO154PB4F14 (io), AF19 IO148NB4F13 (io), AF20 IO148PB4F13 (io), AF21 IO139NB4F13 (io), AF22 IO139PB4F13 (io), AF23 IO133NB4F12 (io), AG5 IO190PB5F17 (io), AG6 IO185PB5F17 (io), AG7 IO182PB5F17 (io), AG8 IO178PB5F16 (io), AG9 IO175PB5F16 (io), AG10 IO171PB5F16 (io), AG11 IO169NB5F15 (io), AG12 IO165PB5F15 (io), AG16 IO158NB4F14 (io), AG17 IO158PB4F14 (io), AG18 IO152NB4F14 (io), AG19 IO152PB4F14 (io), AG20 IO143NB4F13 (io), AG21 IO143PB4F13 (io), AG22 IO140NB4F13 (io), AG23 IO140PB4F13 (io), Y8 IO192NB5F17 (io), Y9 IO187NB5F17 (io), Y10 IO181NB5F17 (io), Y11 IO177NB5F16 (io), Y12 IO173NB5F16 (io), Y13 IO167NB5F15 (io), Y14 IO163NB5F15 (io), Y15 IO157NB4F14 (io), Y16 IO151PB4F13 (io), Y17 IO147NB4F13 (io), Y18 IO141NB4F13 (io), Y19 IO137NB4F12 (io), Y21 IO129PB4F12 (io)
part D pins: AA1 IO207PB6F19 (io), AA2 IO204NB6F19 (io), AA3 IO203PB6F19 (io), AA4 IO200NB6F18 (io), AA5 IO200PB6F18 (io), AB1 IO202NB6F18 (io), AB2 IO204PB6F19 (io), AB3 IO198NB6F18 (io), AB4 IO198PB6F18 (io), AB5 IO194NB6F18 (io), AC1 IO202PB6F18 (io), AC2 IO195NB6F18 (io), AC3 IO195PB6F18 (io), AC4 IO196NB6F18 (io), AC5 IO194PB6F18 (io), AD4 IO196PB6F18 (io), F1 IO253PB7F23 (io), F2 IO253NB7F23 (io), F3 IO256NB7F23 (io), F4 IO256PB7F23 (io), F5 IO255NB7F23 (io), G1 IO250PB7F23 (io), G2 IO250NB7F23 (io), G3 IO252PB7F23 (io), G4 IO252NB7F23 (io), G5 IO255PB7F23 (io), G6 IO254NB7F23 (io), H1 IO245PB7F22 (io), H2 IO245NB7F22 (io), H3 IO246PB7F22 (io), H4 IO246NB7F22 (io), H5 IO249NB7F23 (io), H6 IO254PB7F23 (io), H7 IO257NB7F23 (io), J1 IO243PB7F22 (io), J2 IO243NB7F22 (io), J3 IO244PB7F22 (io), J4 IO244NB7F22 (io), J5 IO249PB7F23 (io), J6 IO248NB7F23 (io), J7 IO257PB7F23 (io), K1 IO240PB7F22 (io), K2 IO240NB7F22 (io), K3 IO241PB7F22 (io), K4 IO241NB7F22 (io), K5 IO242NB7F22 (io), K6 IO248PB7F23 (io), K7 IO251PB7F23 (io), K8 IO251NB7F23 (io), L1 IO236PB7F22 (io), L2 IO236NB7F22 (io), L3 IO237PB7F22 (io), L4 IO237NB7F22 (io), L5 IO242PB7F22 (io), L6 IO238NB7F22 (io), L7 IO247PB7F23 (io), L8 IO247NB7F23 (io), M1 IO233PB7F21 (io), M2 IO233NB7F21 (io), M3 IO234PB7F21 (io), M4 IO234NB7F21 (io), M5 IO235NB7F21 (io), M6 IO238PB7F22 (io), M7 IO239PB7F22 (io), M8 IO239NB7F22 (io), N1 IO229PB7F21 (io), N2 IO229NB7F21 (io), N3 IO232PB7F21 (io), N4 IO232NB7F21 (io), N5 IO235PB7F21 (io), N6 IO230NB7F21 (io), N7 IO227NB7F21 (io), N8 IO231PB7F21 (io), N9 IO231NB7F21 (io), P1 IO225NB7F21 (io), P2 IO226PB7F21 (io), P3 IO226NB7F21 (io), P4 IO228PB7F21 (io), P5 IO228NB7F21 (io), P6 IO230PB7F21 (io), P7 IO227PB7F21 (io), P8 IO223NB6F20 (io), P9 IO223PB6F20 (io), R1 IO225PB7F21 (io), R2 IO222NB6F20 (io), R3 IO224NB6F20 (io), R4 IO224PB6F20 (io), R5 IO220NB6F20 (io), R6 IO220PB6F20 (io), R7 IO217NB6F20 (io), R8 IO217PB6F20 (io), R9 IO213NB6F19 (io), T1 IO219NB6F20 (io), T2 IO222PB6F20 (io), T3 IO221NB6F20 (io), T4 IO221PB6F20 (io), T5 IO215NB6F20 (io), T6 IO215PB6F20 (io), T7 IO209NB6F19 (io), T8 IO213PB6F19 (io), U1 IO219PB6F20 (io), U2 IO218NB6F20 (io), U4 IO214NB6F20 (io), U5 IO211NB6F19 (io), U6 IO211PB6F19 (io), U7 IO209PB6F19 (io), U8 IO205NB6F19 (io), V1 IO216NB6F20 (io), V2 IO218PB6F20 (io), V3 IO212NB6F19 (io), V4 IO214PB6F20 (io), V5 IO206NB6F19 (io), V6 IO206PB6F19 (io), V7 IO199NB6F18 (io), V8 IO205PB6F19 (io), W1 IO216PB6F20 (io), W2 IO210NB6F19 (io), W3 IO212PB6F19 (io), W4 IO208NB6F19 (io), W5 IO201NB6F18 (io), W6 IO201PB6F18 (io), W7 IO199PB6F18 (io), W8 IO193NB6F18 (io), Y1 IO207NB6F19 (io), Y2 IO210PB6F19 (io), Y3 IO203NB6F19 (io), Y4 IO208PB6F19 (io), Y5 IO197NB6F18 (io), Y6 IO197PB6F18 (io), Y7 IO193PB6F18 (io)
part E pins: A4 VCCIB0 (power), A11 VCCDA (power), A13 VCCPLA (power), A14 VCOMPLB (power), A15 VCOMPLC (power), A24 VCCIB1 (power), AA21 VCCA (power), AB12 VCCDA (power), AB13 VCCPLG (power), AB14 PRD (out), AC12 VCCDA (power), AC14 VCOMPLG (power), AC25 VCCDA (power), AD1 VCCIB6 (power), AD2 VCCIB6 (power), AD3 VCCIB6 (power), AD5 VCCA (power), AD16 VCCDA (power), AD17 VCCDA (power), AD25 VCCIB3 (power), AD26 VCCIB3 (power), AD27 VCCIB3 (power), AE4 VCCIB5 (power), AE24 VCCIB4 (power), AF4 VCCIB5 (power), AF14 VCCPLF (power), AF24 VCCIB4 (power), AG4 VCCIB5 (power), AG13 VCCPLH (power), AG14 VCCPLE (power), AG15 VCOMPLE (power), AG24 VCCIB4 (power), B4 VCCIB0 (power), B13 VCOMPLA (power), B15 VCCPLC (power), B24 VCCIB1 (power), C4 VCCIB0 (power), C15 VCCPLD (power), C24 VCCIB1 (power), D1 VCCIB7 (power), D2 VCCIB7 (power), D3 VCCIB7 (power), D4 TDI (in), D14 PRB (out), D24 VPUMP (power), D25 VCCIB2 (power), D26 VCCIB2 (power), D27 VCCIB2 (power), E1 VCCA (power), E2 VCCDA (power), E3 ~{TRST} (in), E4 TCK (in), E16 VCCDA (power), E24 VCCDA (power), F7 VCCDA (power), F12 VCCDA (power), F16 VCCDA (power), G22 VCCA (power), H8 TMS (in), J8 LP (in), J9 TDO (hiz), J10 VCCIB0 (power), J11 VCCIB0 (power), J12 VCCIB0 (power), J13 VCCPLB (power), J14 PRA (out), J15 VCOMPLD (power), J16 VCCIB1 (power), J17 VCCIB1 (power), J18 VCCIB1 (power), K9 VCCIB7 (power), K10 VCCA (power), K11 VCCA (power), K12 VCCIB0 (power), K13 VCCIB0 (power), K14 VCCDA (power), K15 VCCIB1 (power), K16 VCCIB1 (power), K17 VCCA (power), K18 VCCA (power), K19 VCCIB2 (power), L9 VCCIB7 (power), L10 VCCA (power), L18 VCCA (power), L19 VCCIB2 (power), M9 VCCIB7 (power), M10 VCCIB7 (power), M18 VCCIB2 (power), M19 VCCIB2 (power), N10 VCCIB7 (power), N18 VCCIB2 (power), P10 VCCDA (power), P18 VCCDA (power), R10 VCCIB6 (power), R18 VCCIB3 (power), T9 VCCIB6 (power), T10 VCCIB6 (power), T18 VCCIB3 (power), T19 VCCIB3 (power), U3 NC, U9 VCCIB6 (power), U10 VCCA (power), U18 VCCA (power), U19 VCCIB3 (power), V9 VCCIB6 (power), V10 VCCA (power), V11 VCCA (power), V12 VCCIB5 (power), V13 VCCIB5 (power), V14 PRC (out), V15 VCCIB4 (power), V16 VCCIB4 (power), V17 VCCA (power), V18 VCCA (power), V19 VCCIB3 (power), W9 VCCDA (power), W10 VCCIB5 (power), W11 VCCIB5 (power), W12 VCCIB5 (power), W13 VCOMPLH (power), W14 VCCDA (power), W15 VCOMPLF (power), W16 VCCIB4 (power), W17 VCCIB4 (power), W18 VCCIB4 (power)
part F pins: A1 GND (power), A2 GND (power), A3 GND (power), A25 GND (power), A26 GND (power), A27 GND (power), AC24 GND (power), AE1 GND (power), AE2 GND (power), AE3 GND (power), AE5 GND (power), AE25 GND (power), AE26 GND (power), AE27 GND (power), AF1 GND (power), AF2 GND (power), AF3 GND (power), AF25 GND (power), AF26 GND (power), AF27 GND (power), AG1 GND (power), AG2 GND (power), AG3 GND (power), AG25 GND (power), AG26 GND (power), AG27 GND (power), B1 GND (power), B2 GND (power), B3 GND (power), B25 GND (power), B26 GND (power), B27 GND (power), C1 GND (power), C2 GND (power), C3 GND (power), C25 GND (power), C26 GND (power), C27 GND (power), E27 GND (power), L11 GND (power), L12 GND (power), L13 GND (power), L14 GND (power), L15 GND (power), L16 GND (power), L17 GND (power), M11 GND (power), M12 GND (power), M13 GND (power), M14 GND (power), M15 GND (power), M16 GND (power), M17 GND (power), N11 GND (power), N12 GND (power), N13 GND (power), N14 GND (power), N15 GND (power), N16 GND (power), N17 GND (power), P11 GND (power), P12 GND (power), P13 GND (power), P14 GND (power), P15 GND (power), P16 GND (power), P17 GND (power), R11 GND (power), R12 GND (power), R13 GND (power), R14 GND (power), R15 GND (power), R16 GND (power), R17 GND (power), T11 GND (power), T12 GND (power), T13 GND (power), T14 GND (power), T15 GND (power), T16 GND (power), T17 GND (power), U11 GND (power), U12 GND (power), U13 GND (power), U14 GND (power), U15 GND (power), U16 GND (power), U17 GND (power)
part A text: Bank 1; Bank 0
part B text: Bank 3; Bank 2
part C text: Bank 5; Bank 4
part D text: Bank 7; Bank 6

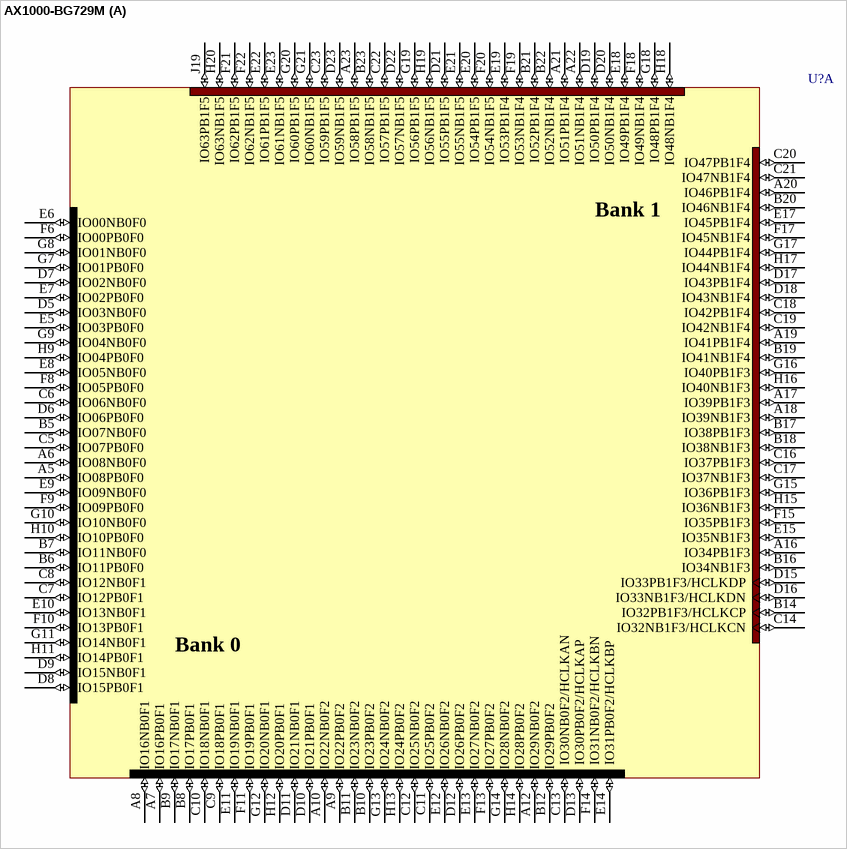
[diagram p318: symbol AX1000-BG729M]

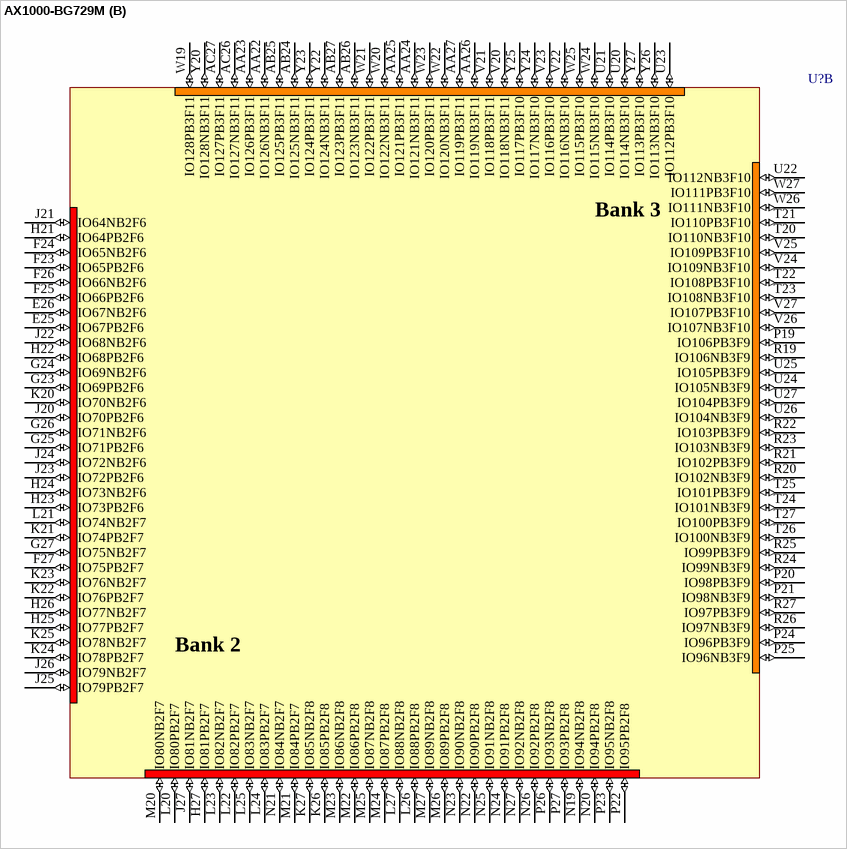
[diagram p319: symbol AX1000-BG729M]

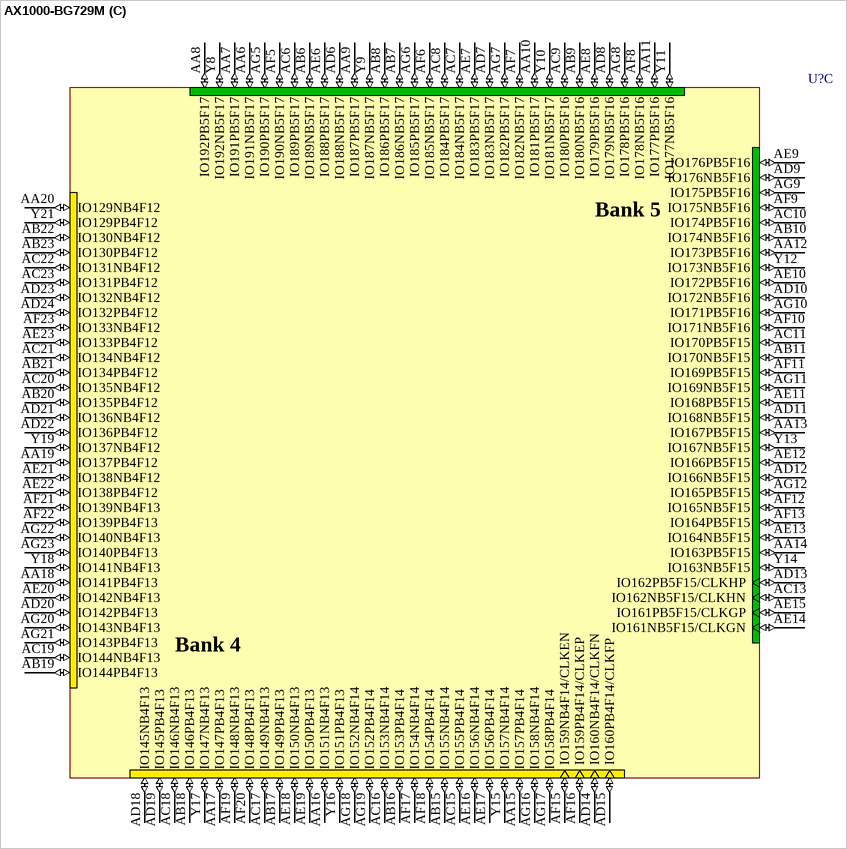
[diagram p320: symbol AX1000-BG729M]

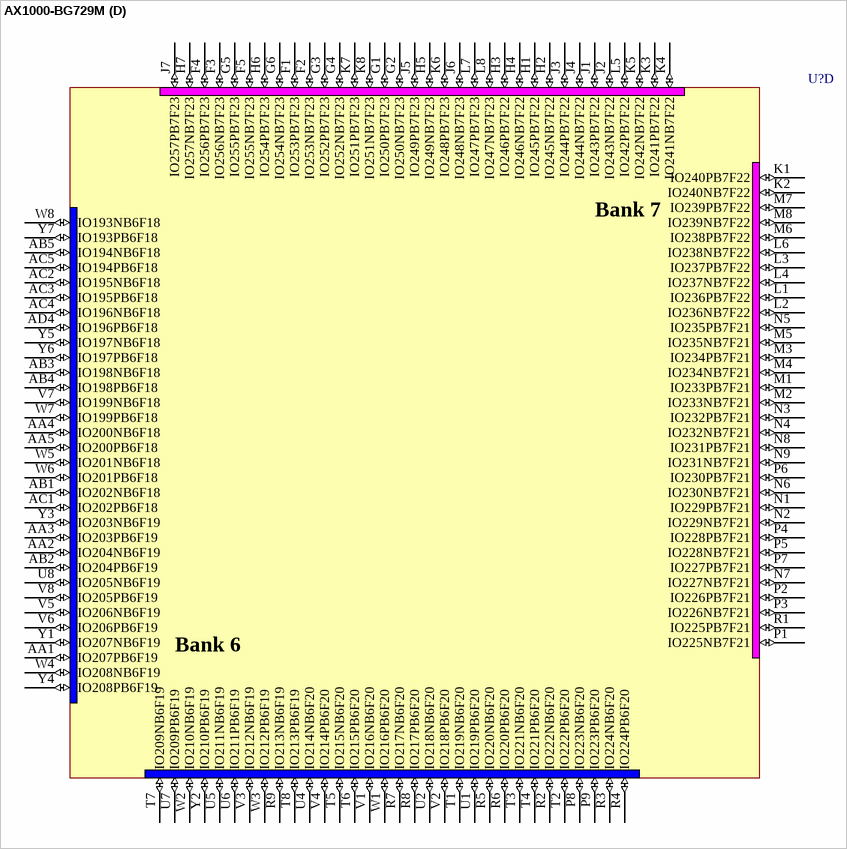
[diagram p321: symbol AX1000-BG729M]

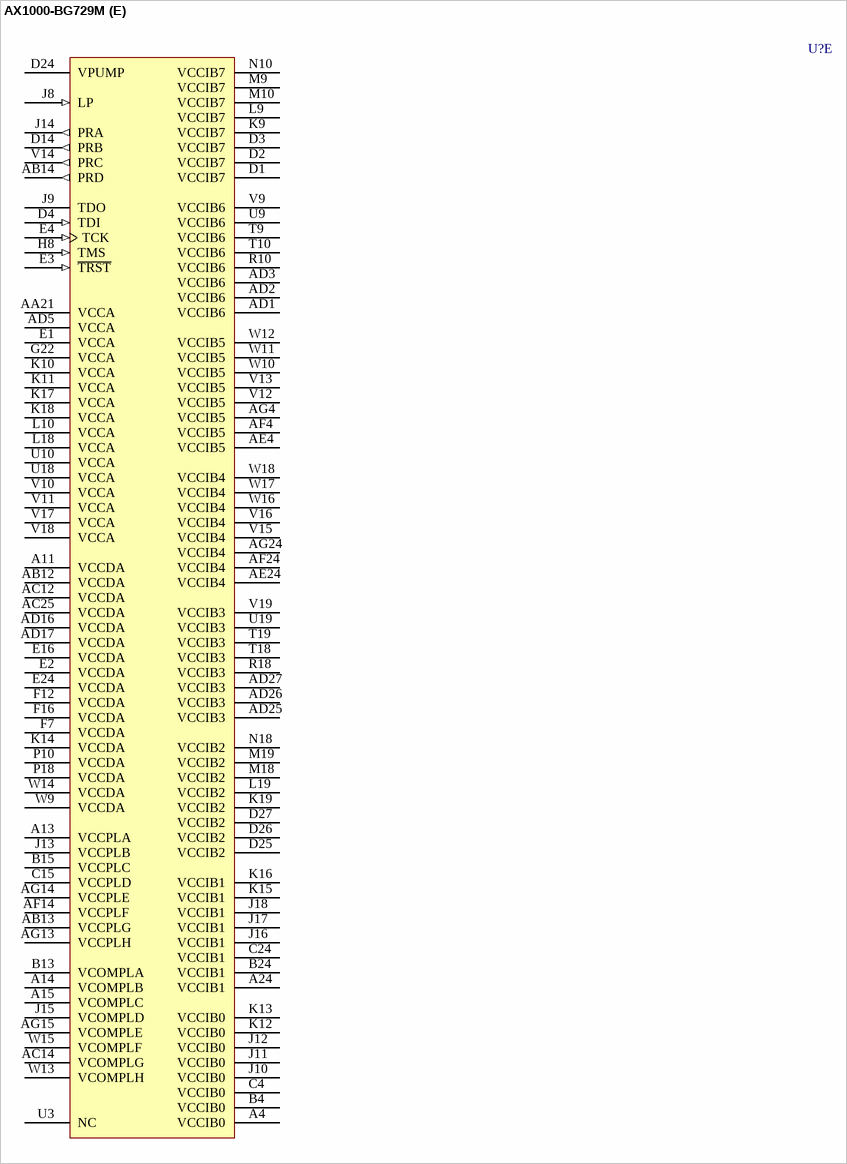
[diagram p322: symbol AX1000-BG729M]

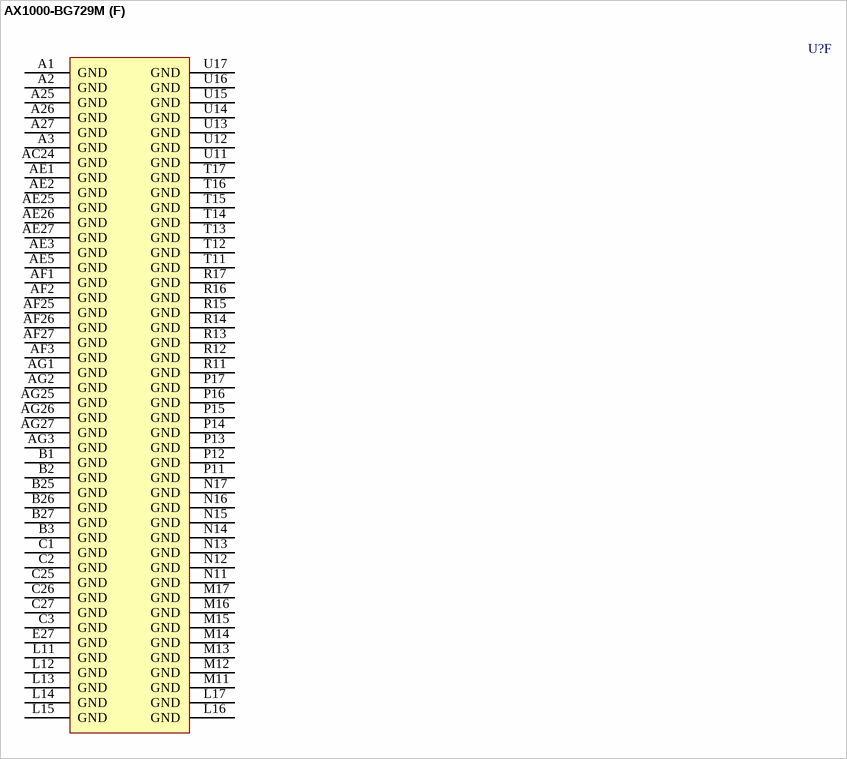
[diagram p323: symbol AX1000-BG729M]

## AX1000-BG729M
designator U?
Axcelerator AX1000 FPGA, 516 User I/Os, 729-Pin BGA, Standard Speed Grade, Military Grade; DatasheetVersion: v2.8, Oct-2009; PackageVersion: ver11.2, Nov-2009; PackageReference: BG729; PackageDescription: 729-Ball Plastic Ball Grid Array (BG729); Code_JEDEC: MS-034-BAR-1; Code_IPC: BGA127P27X27-729; ComponentLink1Description: Manufacturer URL; ComponentLink1URL: http://www.actel.com/; ComponentLink2Description: Axcelerator Datasheet; ComponentLink2URL: http://www.actel.com/documents/AX_DS.pdf; ComponentLink3Description: Package Mechanical Drawings; ComponentLink3URL: http://www.actel.com/documents/PckgMechDrwngs.pdf; ComponentLink4Description: Axcelerator Documents; ComponentLink4URL: http://www.actel.com/products/axcelerator/docs.aspx
footprint BG729 (BGA, 729-Leads, Body 35x35mm, Pitch 1.27mm)
part A pins: A5 IO08PB0F0 (io), A6 IO08NB0F0 (io), A7 IO16PB0F1 (io), A8 IO16NB0F1 (io), A9 IO22PB0F2 (io), A10 IO22NB0F2 (io), A12 IO29NB0F2 (io), A16 IO34PB1F3 (io), A17 IO39PB1F3 (io), A18 IO39NB1F3 (io), A19 IO41PB1F4 (io), A20 IO46PB1F4 (io), A21 IO51PB1F4 (io), A22 IO51NB1F4 (io), A23 IO58PB1F5 (io), B5 IO07NB0F0 (io), B6 IO11PB0F0 (io), B7 IO11NB0F0 (io), B8 IO17PB0F1 (io), B9 IO17NB0F1 (io), B10 IO23PB0F2 (io), B11 IO23NB0F2 (io), B12 IO29PB0F2 (io), B14 IO32PB1F3/HCLKCP (io), B16 IO34NB1F3 (io), B17 IO38PB1F3 (io), B18 IO38NB1F3 (io), B19 IO41NB1F4 (io), B20 IO46NB1F4 (io), B21 IO52PB1F4 (io), B22 IO52NB1F4 (io), B23 IO58NB1F5 (io), C5 IO07PB0F0 (io), C6 IO06NB0F0 (io), C7 IO12PB0F1 (io), C8 IO12NB0F1 (io), C9 IO18PB0F1 (io), C10 IO18NB0F1 (io), C11 IO25PB0F2 (io), C12 IO25NB0F2 (io), C13 IO30NB0F2/HCLKAN (io), C14 IO32NB1F3/HCLKCN (io), C16 IO37PB1F3 (io), C17 IO37NB1F3 (io), C18 IO42PB1F4 (io), C19 IO42NB1F4 (io), C20 IO47PB1F4 (io), C21 IO47NB1F4 (io), C22 IO57PB1F5 (io), C23 IO59PB1F5 (io), D5 IO03NB0F0 (io), D6 IO06PB0F0 (io), D7 IO02NB0F0 (io), D8 IO15PB0F1 (io), D9 IO15NB0F1 (io), D10 IO21PB0F1 (io), D11 IO21NB0F1 (io), D12 IO26PB0F2 (io), D13 IO30PB0F2/HCLKAP (io), D15 IO33PB1F3/HCLKDP (io), D16 IO33NB1F3/HCLKDN (io), D17 IO43PB1F4 (io), D18 IO43NB1F4 (io), D19 IO50PB1F4 (io), D20 IO50NB1F4 (io), D21 IO55PB1F5 (io), D22 IO57NB1F5 (io), D23 IO59NB1F5 (io), E5 IO03PB0F0 (io), E6 IO00NB0F0 (io), E7 IO02PB0F0 (io), E8 IO05NB0F0 (io), E9 IO09NB0F0 (io), E10 IO13NB0F1 (io), E11 IO19NB0F1 (io), E12 IO26NB0F2 (io), E13 IO27NB0F2 (io), E14 IO31PB0F2/HCLKBP (io), E15 IO35NB1F3 (io), E17 IO45PB1F4 (io), E18 IO49PB1F4 (io), E19 IO53PB1F4 (io), E20 IO54PB1F5 (io), E21 IO55NB1F5 (io), E22 IO61PB1F5 (io), E23 IO61NB1F5 (io), F6 IO00PB0F0 (io), F8 IO05PB0F0 (io), F9 IO09PB0F0 (io), F10 IO13PB0F1 (io), F11 IO19PB0F1 (io), F13 IO27PB0F2 (io), F14 IO31NB0F2/HCLKBN (io), F15 IO35PB1F3 (io), F17 IO45NB1F4 (io), F18 IO49NB1F4 (io), F19 IO53NB1F4 (io), F20 IO54NB1F5 (io), F21 IO62PB1F5 (io), F22 IO62NB1F5 (io), G7 IO01PB0F0 (io), G8 IO01NB0F0 (io), G9 IO04NB0F0 (io), G10 IO10NB0F0 (io), G11 IO14NB0F1 (io), G12 IO20NB0F1 (io), G13 IO24NB0F2 (io), G14 IO28NB0F2 (io), G15 IO36PB1F3 (io), G16 IO40PB1F3 (io), G17 IO44PB1F4 (io), G18 IO48PB1F4 (io), G19 IO56PB1F5 (io), G20 IO60PB1F5 (io), G21 IO60NB1F5 (io), H9 IO04PB0F0 (io), H10 IO10PB0F0 (io), H11 IO14PB0F1 (io), H12 IO20PB0F1 (io), H13 IO24PB0F2 (io), H14 IO28PB0F2 (io), H15 IO36NB1F3 (io), H16 IO40NB1F3 (io), H17 IO44NB1F4 (io), H18 IO48NB1F4 (io), H19 IO56NB1F5 (io), H20 IO63NB1F5 (io), J19 IO63PB1F5 (io)
part B pins: AA22 IO126NB3F11 (io), AA23 IO126PB3F11 (io), AA24 IO121NB3F11 (io), AA25 IO121PB3F11 (io), AA26 IO119NB3F11 (io), AA27 IO119PB3F11 (io), AB24 IO125NB3F11 (io), AB25 IO125PB3F11 (io), AB26 IO123NB3F11 (io), AB27 IO123PB3F11 (io), AC26 IO127NB3F11 (io), AC27 IO127PB3F11 (io), E25 IO67PB2F6 (io), E26 IO67NB2F6 (io), F23 IO65PB2F6 (io), F24 IO65NB2F6 (io), F25 IO66PB2F6 (io), F26 IO66NB2F6 (io), F27 IO75PB2F7 (io), G23 IO69PB2F6 (io), G24 IO69NB2F6 (io), G25 IO71PB2F6 (io), G26 IO71NB2F6 (io), G27 IO75NB2F7 (io), H21 IO64PB2F6 (io), H22 IO68PB2F6 (io), H23 IO73PB2F6 (io), H24 IO73NB2F6 (io), H25 IO77PB2F7 (io), H26 IO77NB2F7 (io), H27 IO81PB2F7 (io), J20 IO70PB2F6 (io), J21 IO64NB2F6 (io), J22 IO68NB2F6 (io), J23 IO72PB2F6 (io), J24 IO72NB2F6 (io), J25 IO79PB2F7 (io), J26 IO79NB2F7 (io), J27 IO81NB2F7 (io), K20 IO70NB2F6 (io), K21 IO74PB2F7 (io), K22 IO76PB2F7 (io), K23 IO76NB2F7 (io), K24 IO78PB2F7 (io), K25 IO78NB2F7 (io), K26 IO85PB2F8 (io), K27 IO85NB2F8 (io), L20 IO80PB2F7 (io), L21 IO74NB2F7 (io), L22 IO82PB2F7 (io), L23 IO82NB2F7 (io), L24 IO83PB2F7 (io), L25 IO83NB2F7 (io), L26 IO88PB2F8 (io), L27 IO88NB2F8 (io), M20 IO80NB2F7 (io), M21 IO84PB2F7 (io), M22 IO86PB2F8 (io), M23 IO86NB2F8 (io), M24 IO87PB2F8 (io), M25 IO87NB2F8 (io), M26 IO89PB2F8 (io), M27 IO89NB2F8 (io), N19 IO94NB2F8 (io), N20 IO94PB2F8 (io), N21 IO84NB2F7 (io), N22 IO90PB2F8 (io), N23 IO90NB2F8 (io), N24 IO91PB2F8 (io), N25 IO91NB2F8 (io), N26 IO92PB2F8 (io), N27 IO92NB2F8 (io), P19 IO106PB3F9 (io), P20 IO98PB3F9 (io), P21 IO98NB3F9 (io), P22 IO95PB2F8 (io), P23 IO95NB2F8 (io), P24 IO96PB3F9 (io), P25 IO96NB3F9 (io), P26 IO93NB2F8 (io), P27 IO93PB2F8 (io), R19 IO106NB3F9 (io), R20 IO102NB3F9 (io), R21 IO102PB3F9 (io), R22 IO103PB3F9 (io), R23 IO103NB3F9 (io), R24 IO99NB3F9 (io), R25 IO99PB3F9 (io), R26 IO97NB3F9 (io), R27 IO97PB3F9 (io), T20 IO110NB3F10 (io), T21 IO110PB3F10 (io), T22 IO108PB3F10 (io), T23 IO108NB3F10 (io), T24 IO101NB3F9 (io), T25 IO101PB3F9 (io), T26 IO100NB3F9 (io), T27 IO100PB3F9 (io), U20 IO114NB3F10 (io), U21 IO114PB3F10 (io), U22 IO112NB3F10 (io), U23 IO112PB3F10 (io), U24 IO105NB3F9 (io), U25 IO105PB3F9 (io), U26 IO104NB3F9 (io), U27 IO104PB3F9 (io), V20 IO118NB3F11 (io), V21 IO118PB3F11 (io), V22 IO116NB3F10 (io), V23 IO116PB3F10 (io), V24 IO109NB3F10 (io), V25 IO109PB3F10 (io), V26 IO107NB3F10 (io), V27 IO107PB3F10 (io), W19 IO128PB3F11 (io), W20 IO122NB3F11 (io), W21 IO122PB3F11 (io), W22 IO120NB3F11 (io), W23 IO120PB3F11 (io), W24 IO115NB3F10 (io), W25 IO115PB3F10 (io), W26 IO111NB3F10 (io), W27 IO111PB3F10 (io), Y20 IO128NB3F11 (io), Y22 IO124NB3F11 (io), Y23 IO124PB3F11 (io), Y24 IO117NB3F10 (io), Y25 IO117PB3F10 (io), Y26 IO113NB3F10 (io), Y27 IO113PB3F10 (io)
part C pins: AA6 IO191NB5F17 (io), AA7 IO191PB5F17 (io), AA8 IO192PB5F17 (io), AA9 IO187PB5F17 (io), AA10 IO181PB5F17 (io), AA11 IO177PB5F16 (io), AA12 IO173PB5F16 (io), AA13 IO167PB5F15 (io), AA14 IO163PB5F15 (io), AA15 IO157PB4F14 (io), AA16 IO151NB4F13 (io), AA17 IO147PB4F13 (io), AA18 IO141PB4F13 (io), AA19 IO137PB4F12 (io), AA20 IO129NB4F12 (io), AB6 IO189NB5F17 (io), AB7 IO186NB5F17 (io), AB8 IO186PB5F17 (io), AB9 IO180NB5F16 (io), AB10 IO174NB5F16 (io), AB11 IO170NB5F15 (io), AB15 IO155NB4F14 (io), AB16 IO153PB4F14 (io), AB17 IO149PB4F13 (io), AB18 IO146PB4F13 (io), AB19 IO144PB4F13 (io), AB20 IO135PB4F12 (io), AB21 IO134PB4F12 (io), AB22 IO130NB4F12 (io), AB23 IO130PB4F12 (io), AC6 IO189PB5F17 (io), AC7 IO184NB5F17 (io), AC8 IO184PB5F17 (io), AC9 IO180PB5F16 (io), AC10 IO174PB5F16 (io), AC11 IO170PB5F15 (io), AC13 IO162NB5F15/CLKHN (io), AC15 IO155PB4F14 (io), AC16 IO153NB4F14 (io), AC17 IO149NB4F13 (io), AC18 IO146NB4F13 (io), AC19 IO144NB4F13 (io), AC20 IO135NB4F12 (io), AC21 IO134NB4F12 (io), AC22 IO131NB4F12 (io), AC23 IO131PB4F12 (io), AD6 IO188NB5F17 (io), AD7 IO183NB5F17 (io), AD8 IO179NB5F16 (io), AD9 IO176NB5F16 (io), AD10 IO172NB5F16 (io), AD11 IO168NB5F15 (io), AD12 IO166NB5F15 (io), AD13 IO162PB5F15/CLKHP (io), AD14 IO160NB4F14/CLKFN (io), AD15 IO160PB4F14/CLKFP (io), AD18 IO145NB4F13 (io), AD19 IO145PB4F13 (io), AD20 IO142PB4F13 (io), AD21 IO136NB4F12 (io), AD22 IO136PB4F12 (io), AD23 IO132NB4F12 (io), AD24 IO132PB4F12 (io), AE6 IO188PB5F17 (io), AE7 IO183PB5F17 (io), AE8 IO179PB5F16 (io), AE9 IO176PB5F16 (io), AE10 IO172PB5F16 (io), AE11 IO168PB5F15 (io), AE12 IO166PB5F15 (io), AE13 IO164NB5F15 (io), AE14 IO161NB5F15/CLKGN (io), AE15 IO161PB5F15/CLKGP (io), AE16 IO156NB4F14 (io), AE17 IO156PB4F14 (io), AE18 IO150NB4F13 (io), AE19 IO150PB4F13 (io), AE20 IO142NB4F13 (io), AE21 IO138NB4F12 (io), AE22 IO138PB4F12 (io), AE23 IO133PB4F12 (io), AF5 IO190NB5F17 (io), AF6 IO185NB5F17 (io), AF7 IO182NB5F17 (io), AF8 IO178NB5F16 (io), AF9 IO175NB5F16 (io), AF10 IO171NB5F16 (io), AF11 IO169PB5F15 (io), AF12 IO165NB5F15 (io), AF13 IO164PB5F15 (io), AF15 IO159NB4F14/CLKEN (io), AF16 IO159PB4F14/CLKEP (io), AF17 IO154NB4F14 (io), AF18 IO154PB4F14 (io), AF19 IO148NB4F13 (io), AF20 IO148PB4F13 (io), AF21 IO139NB4F13 (io), AF22 IO139PB4F13 (io), AF23 IO133NB4F12 (io), AG5 IO190PB5F17 (io), AG6 IO185PB5F17 (io), AG7 IO182PB5F17 (io), AG8 IO178PB5F16 (io), AG9 IO175PB5F16 (io), AG10 IO171PB5F16 (io), AG11 IO169NB5F15 (io), AG12 IO165PB5F15 (io), AG16 IO158NB4F14 (io), AG17 IO158PB4F14 (io), AG18 IO152NB4F14 (io), AG19 IO152PB4F14 (io), AG20 IO143NB4F13 (io), AG21 IO143PB4F13 (io), AG22 IO140NB4F13 (io), AG23 IO140PB4F13 (io), Y8 IO192NB5F17 (io), Y9 IO187NB5F17 (io), Y10 IO181NB5F17 (io), Y11 IO177NB5F16 (io), Y12 IO173NB5F16 (io), Y13 IO167NB5F15 (io), Y14 IO163NB5F15 (io), Y15 IO157NB4F14 (io), Y16 IO151PB4F13 (io), Y17 IO147NB4F13 (io), Y18 IO141NB4F13 (io), Y19 IO137NB4F12 (io), Y21 IO129PB4F12 (io)
part D pins: AA1 IO207PB6F19 (io), AA2 IO204NB6F19 (io), AA3 IO203PB6F19 (io), AA4 IO200NB6F18 (io), AA5 IO200PB6F18 (io), AB1 IO202NB6F18 (io), AB2 IO204PB6F19 (io), AB3 IO198NB6F18 (io), AB4 IO198PB6F18 (io), AB5 IO194NB6F18 (io), AC1 IO202PB6F18 (io), AC2 IO195NB6F18 (io), AC3 IO195PB6F18 (io), AC4 IO196NB6F18 (io), AC5 IO194PB6F18 (io), AD4 IO196PB6F18 (io), F1 IO253PB7F23 (io), F2 IO253NB7F23 (io), F3 IO256NB7F23 (io), F4 IO256PB7F23 (io), F5 IO255NB7F23 (io), G1 IO250PB7F23 (io), G2 IO250NB7F23 (io), G3 IO252PB7F23 (io), G4 IO252NB7F23 (io), G5 IO255PB7F23 (io), G6 IO254NB7F23 (io), H1 IO245PB7F22 (io), H2 IO245NB7F22 (io), H3 IO246PB7F22 (io), H4 IO246NB7F22 (io), H5 IO249NB7F23 (io), H6 IO254PB7F23 (io), H7 IO257NB7F23 (io), J1 IO243PB7F22 (io), J2 IO243NB7F22 (io), J3 IO244PB7F22 (io), J4 IO244NB7F22 (io), J5 IO249PB7F23 (io), J6 IO248NB7F23 (io), J7 IO257PB7F23 (io), K1 IO240PB7F22 (io), K2 IO240NB7F22 (io), K3 IO241PB7F22 (io), K4 IO241NB7F22 (io), K5 IO242NB7F22 (io), K6 IO248PB7F23 (io), K7 IO251PB7F23 (io), K8 IO251NB7F23 (io), L1 IO236PB7F22 (io), L2 IO236NB7F22 (io), L3 IO237PB7F22 (io), L4 IO237NB7F22 (io), L5 IO242PB7F22 (io), L6 IO238NB7F22 (io), L7 IO247PB7F23 (io), L8 IO247NB7F23 (io), M1 IO233PB7F21 (io), M2 IO233NB7F21 (io), M3 IO234PB7F21 (io), M4 IO234NB7F21 (io), M5 IO235NB7F21 (io), M6 IO238PB7F22 (io), M7 IO239PB7F22 (io), M8 IO239NB7F22 (io), N1 IO229PB7F21 (io), N2 IO229NB7F21 (io), N3 IO232PB7F21 (io), N4 IO232NB7F21 (io), N5 IO235PB7F21 (io), N6 IO230NB7F21 (io), N7 IO227NB7F21 (io), N8 IO231PB7F21 (io), N9 IO231NB7F21 (io), P1 IO225NB7F21 (io), P2 IO226PB7F21 (io), P3 IO226NB7F21 (io), P4 IO228PB7F21 (io), P5 IO228NB7F21 (io), P6 IO230PB7F21 (io), P7 IO227PB7F21 (io), P8 IO223NB6F20 (io), P9 IO223PB6F20 (io), R1 IO225PB7F21 (io), R2 IO222NB6F20 (io), R3 IO224NB6F20 (io), R4 IO224PB6F20 (io), R5 IO220NB6F20 (io), R6 IO220PB6F20 (io), R7 IO217NB6F20 (io), R8 IO217PB6F20 (io), R9 IO213NB6F19 (io), T1 IO219NB6F20 (io), T2 IO222PB6F20 (io), T3 IO221NB6F20 (io), T4 IO221PB6F20 (io), T5 IO215NB6F20 (io), T6 IO215PB6F20 (io), T7 IO209NB6F19 (io), T8 IO213PB6F19 (io), U1 IO219PB6F20 (io), U2 IO218NB6F20 (io), U4 IO214NB6F20 (io), U5 IO211NB6F19 (io), U6 IO211PB6F19 (io), U7 IO209PB6F19 (io), U8 IO205NB6F19 (io), V1 IO216NB6F20 (io), V2 IO218PB6F20 (io), V3 IO212NB6F19 (io), V4 IO214PB6F20 (io), V5 IO206NB6F19 (io), V6 IO206PB6F19 (io), V7 IO199NB6F18 (io), V8 IO205PB6F19 (io), W1 IO216PB6F20 (io), W2 IO210NB6F19 (io), W3 IO212PB6F19 (io), W4 IO208NB6F19 (io), W5 IO201NB6F18 (io), W6 IO201PB6F18 (io), W7 IO199PB6F18 (io), W8 IO193NB6F18 (io), Y1 IO207NB6F19 (io), Y2 IO210PB6F19 (io), Y3 IO203NB6F19 (io), Y4 IO208PB6F19 (io), Y5 IO197NB6F18 (io), Y6 IO197PB6F18 (io), Y7 IO193PB6F18 (io)
part E pins: A4 VCCIB0 (power), A11 VCCDA (power), A13 VCCPLA (power), A14 VCOMPLB (power), A15 VCOMPLC (power), A24 VCCIB1 (power), AA21 VCCA (power), AB12 VCCDA (power), AB13 VCCPLG (power), AB14 PRD (out), AC12 VCCDA (power), AC14 VCOMPLG (power), AC25 VCCDA (power), AD1 VCCIB6 (power), AD2 VCCIB6 (power), AD3 VCCIB6 (power), AD5 VCCA (power), AD16 VCCDA (power), AD17 VCCDA (power), AD25 VCCIB3 (power), AD26 VCCIB3 (power), AD27 VCCIB3 (power), AE4 VCCIB5 (power), AE24 VCCIB4 (power), AF4 VCCIB5 (power), AF14 VCCPLF (power), AF24 VCCIB4 (power), AG4 VCCIB5 (power), AG13 VCCPLH (power), AG14 VCCPLE (power), AG15 VCOMPLE (power), AG24 VCCIB4 (power), B4 VCCIB0 (power), B13 VCOMPLA (power), B15 VCCPLC (power), B24 VCCIB1 (power), C4 VCCIB0 (power), C15 VCCPLD (power), C24 VCCIB1 (power), D1 VCCIB7 (power), D2 VCCIB7 (power), D3 VCCIB7 (power), D4 TDI (in), D14 PRB (out), D24 VPUMP (power), D25 VCCIB2 (power), D26 VCCIB2 (power), D27 VCCIB2 (power), E1 VCCA (power), E2 VCCDA (power), E3 ~{TRST} (in), E4 TCK (in), E16 VCCDA (power), E24 VCCDA (power), F7 VCCDA (power), F12 VCCDA (power), F16 VCCDA (power), G22 VCCA (power), H8 TMS (in), J8 LP (in), J9 TDO (hiz), J10 VCCIB0 (power), J11 VCCIB0 (power), J12 VCCIB0 (power), J13 VCCPLB (power), J14 PRA (out), J15 VCOMPLD (power), J16 VCCIB1 (power), J17 VCCIB1 (power), J18 VCCIB1 (power), K9 VCCIB7 (power), K10 VCCA (power), K11 VCCA (power), K12 VCCIB0 (power), K13 VCCIB0 (power), K14 VCCDA (power), K15 VCCIB1 (power), K16 VCCIB1 (power), K17 VCCA (power), K18 VCCA (power), K19 VCCIB2 (power), L9 VCCIB7 (power), L10 VCCA (power), L18 VCCA (power), L19 VCCIB2 (power), M9 VCCIB7 (power), M10 VCCIB7 (power), M18 VCCIB2 (power), M19 VCCIB2 (power), N10 VCCIB7 (power), N18 VCCIB2 (power), P10 VCCDA (power), P18 VCCDA (power), R10 VCCIB6 (power), R18 VCCIB3 (power), T9 VCCIB6 (power), T10 VCCIB6 (power), T18 VCCIB3 (power), T19 VCCIB3 (power), U3 NC, U9 VCCIB6 (power), U10 VCCA (power), U18 VCCA (power), U19 VCCIB3 (power), V9 VCCIB6 (power), V10 VCCA (power), V11 VCCA (power), V12 VCCIB5 (power), V13 VCCIB5 (power), V14 PRC (out), V15 VCCIB4 (power), V16 VCCIB4 (power), V17 VCCA (power), V18 VCCA (power), V19 VCCIB3 (power), W9 VCCDA (power), W10 VCCIB5 (power), W11 VCCIB5 (power), W12 VCCIB5 (power), W13 VCOMPLH (power), W14 VCCDA (power), W15 VCOMPLF (power), W16 VCCIB4 (power), W17 VCCIB4 (power), W18 VCCIB4 (power)
part F pins: A1 GND (power), A2 GND (power), A3 GND (power), A25 GND (power), A26 GND (power), A27 GND (power), AC24 GND (power), AE1 GND (power), AE2 GND (power), AE3 GND (power), AE5 GND (power), AE25 GND (power), AE26 GND (power), AE27 GND (power), AF1 GND (power), AF2 GND (power), AF3 GND (power), AF25 GND (power), AF26 GND (power), AF27 GND (power), AG1 GND (power), AG2 GND (power), AG3 GND (power), AG25 GND (power), AG26 GND (power), AG27 GND (power), B1 GND (power), B2 GND (power), B3 GND (power), B25 GND (power), B26 GND (power), B27 GND (power), C1 GND (power), C2 GND (power), C3 GND (power), C25 GND (power), C26 GND (power), C27 GND (power), E27 GND (power), L11 GND (power), L12 GND (power), L13 GND (power), L14 GND (power), L15 GND (power), L16 GND (power), L17 GND (power), M11 GND (power), M12 GND (power), M13 GND (power), M14 GND (power), M15 GND (power), M16 GND (power), M17 GND (power), N11 GND (power), N12 GND (power), N13 GND (power), N14 GND (power), N15 GND (power), N16 GND (power), N17 GND (power), P11 GND (power), P12 GND (power), P13 GND (power), P14 GND (power), P15 GND (power), P16 GND (power), P17 GND (power), R11 GND (power), R12 GND (power), R13 GND (power), R14 GND (power), R15 GND (power), R16 GND (power), R17 GND (power), T11 GND (power), T12 GND (power), T13 GND (power), T14 GND (power), T15 GND (power), T16 GND (power), T17 GND (power), U11 GND (power), U12 GND (power), U13 GND (power), U14 GND (power), U15 GND (power), U16 GND (power), U17 GND (power)
part A text: Bank 1; Bank 0
part B text: Bank 3; Bank 2
part C text: Bank 5; Bank 4
part D text: Bank 7; Bank 6

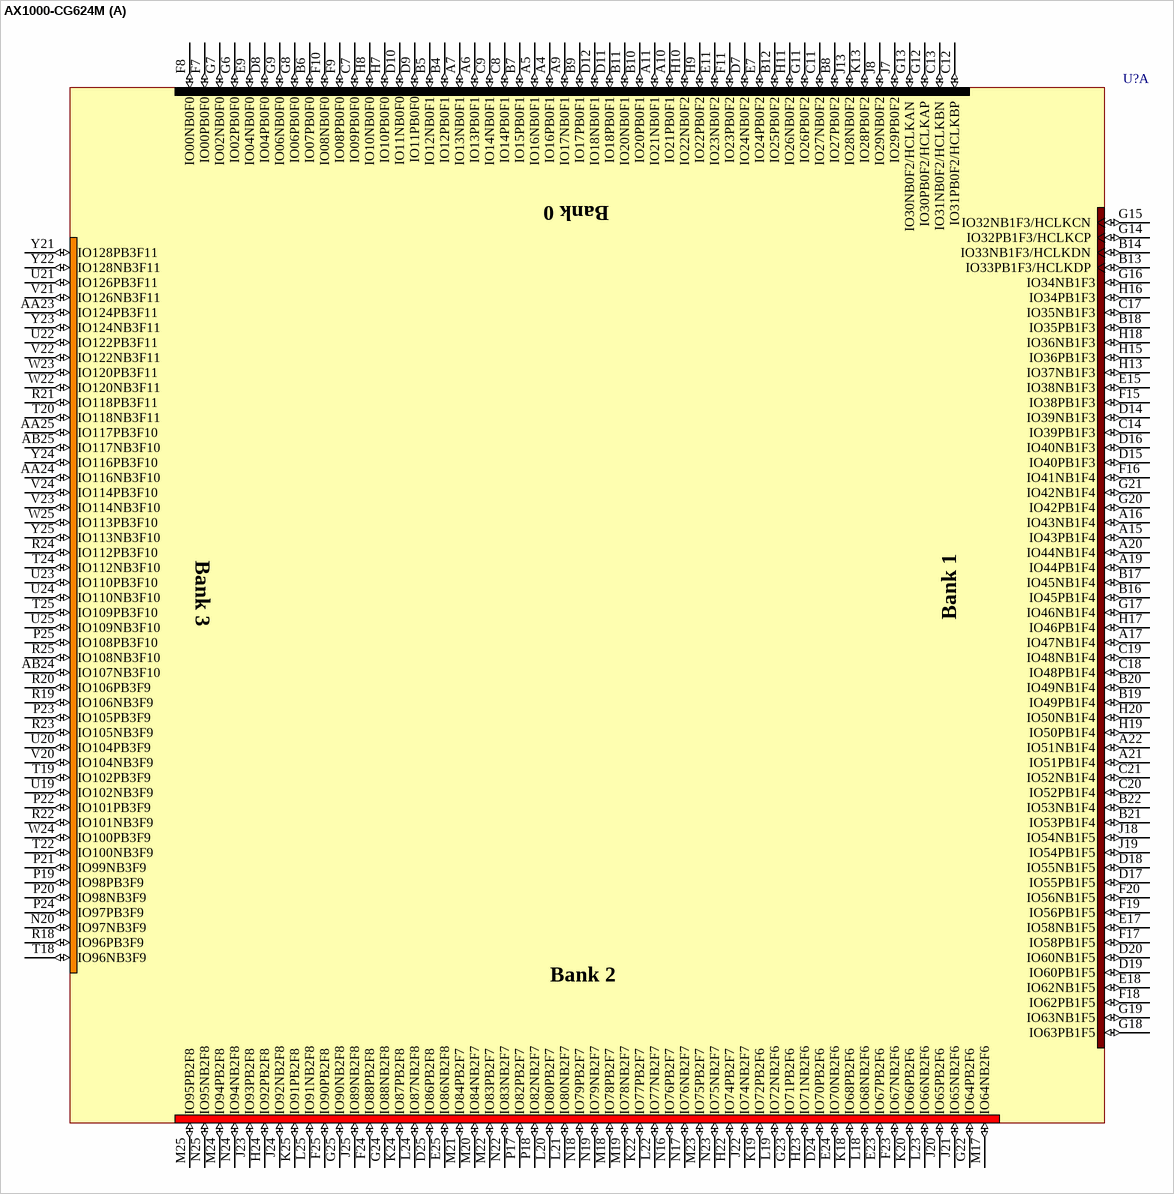
[diagram p324: symbol AX1000-CG624M]

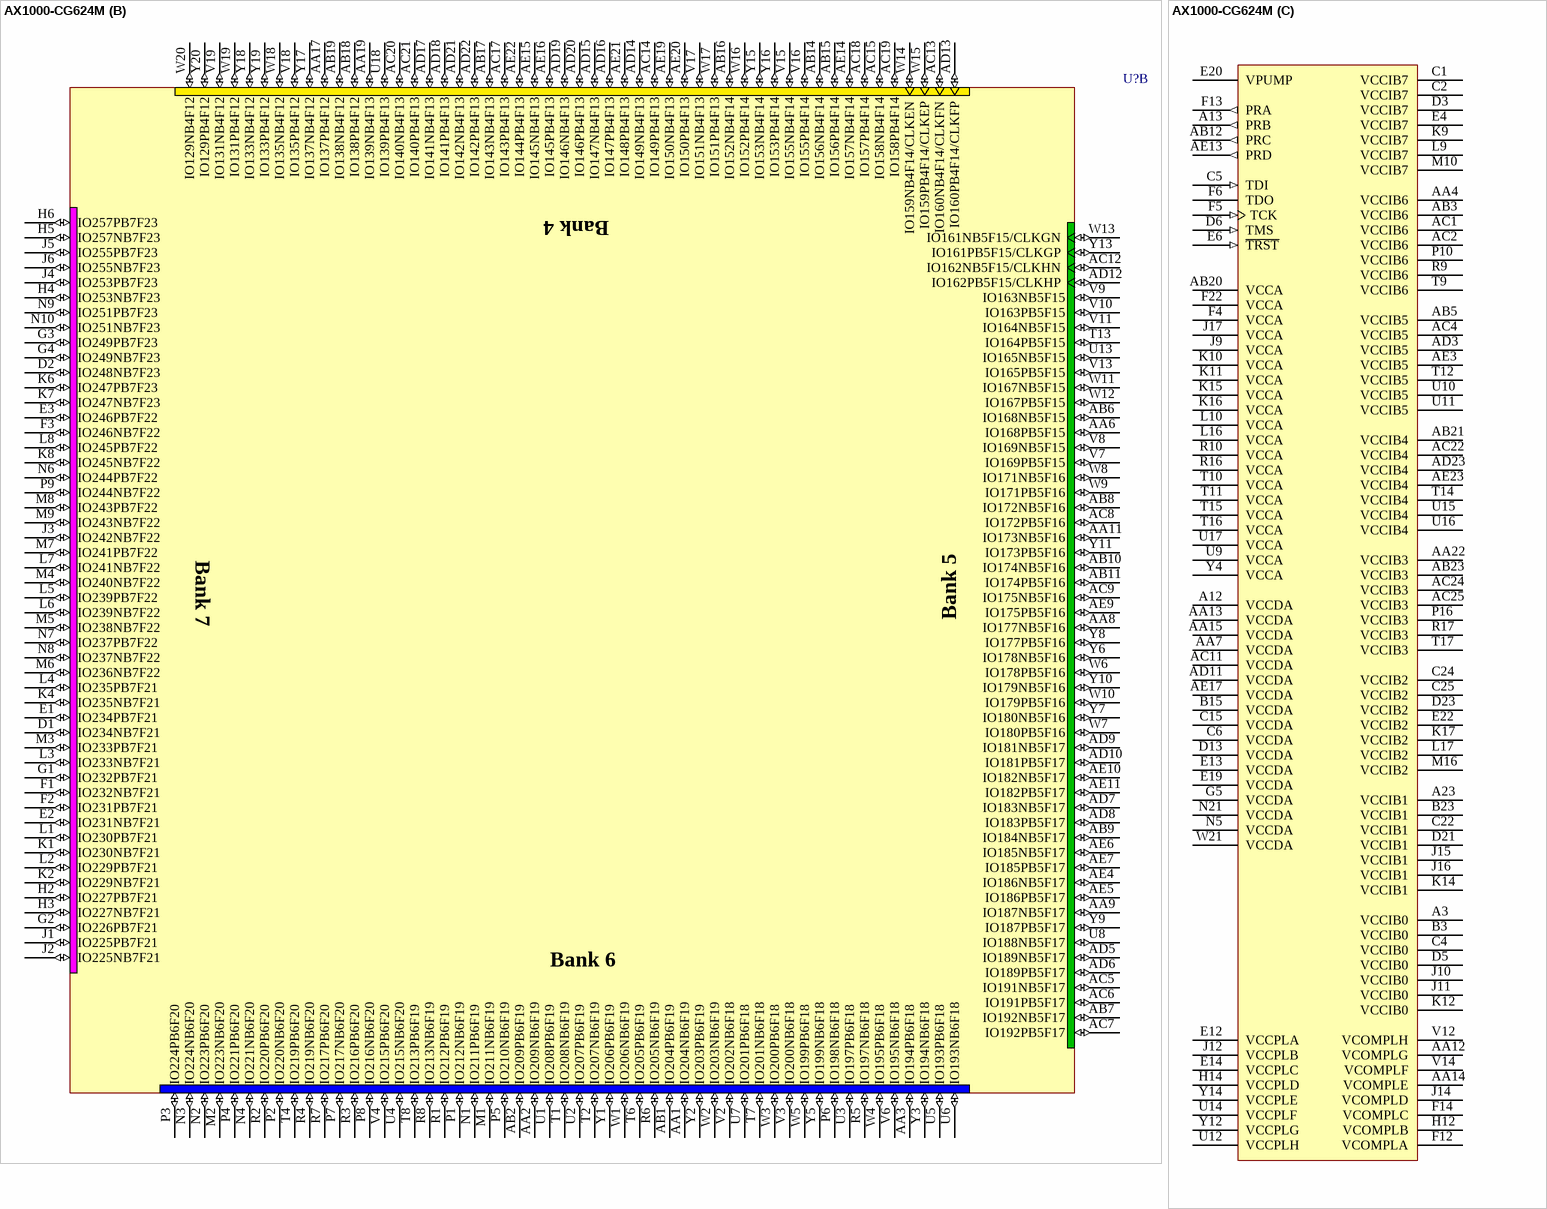
[diagram p325: symbol AX1000-CG624M]

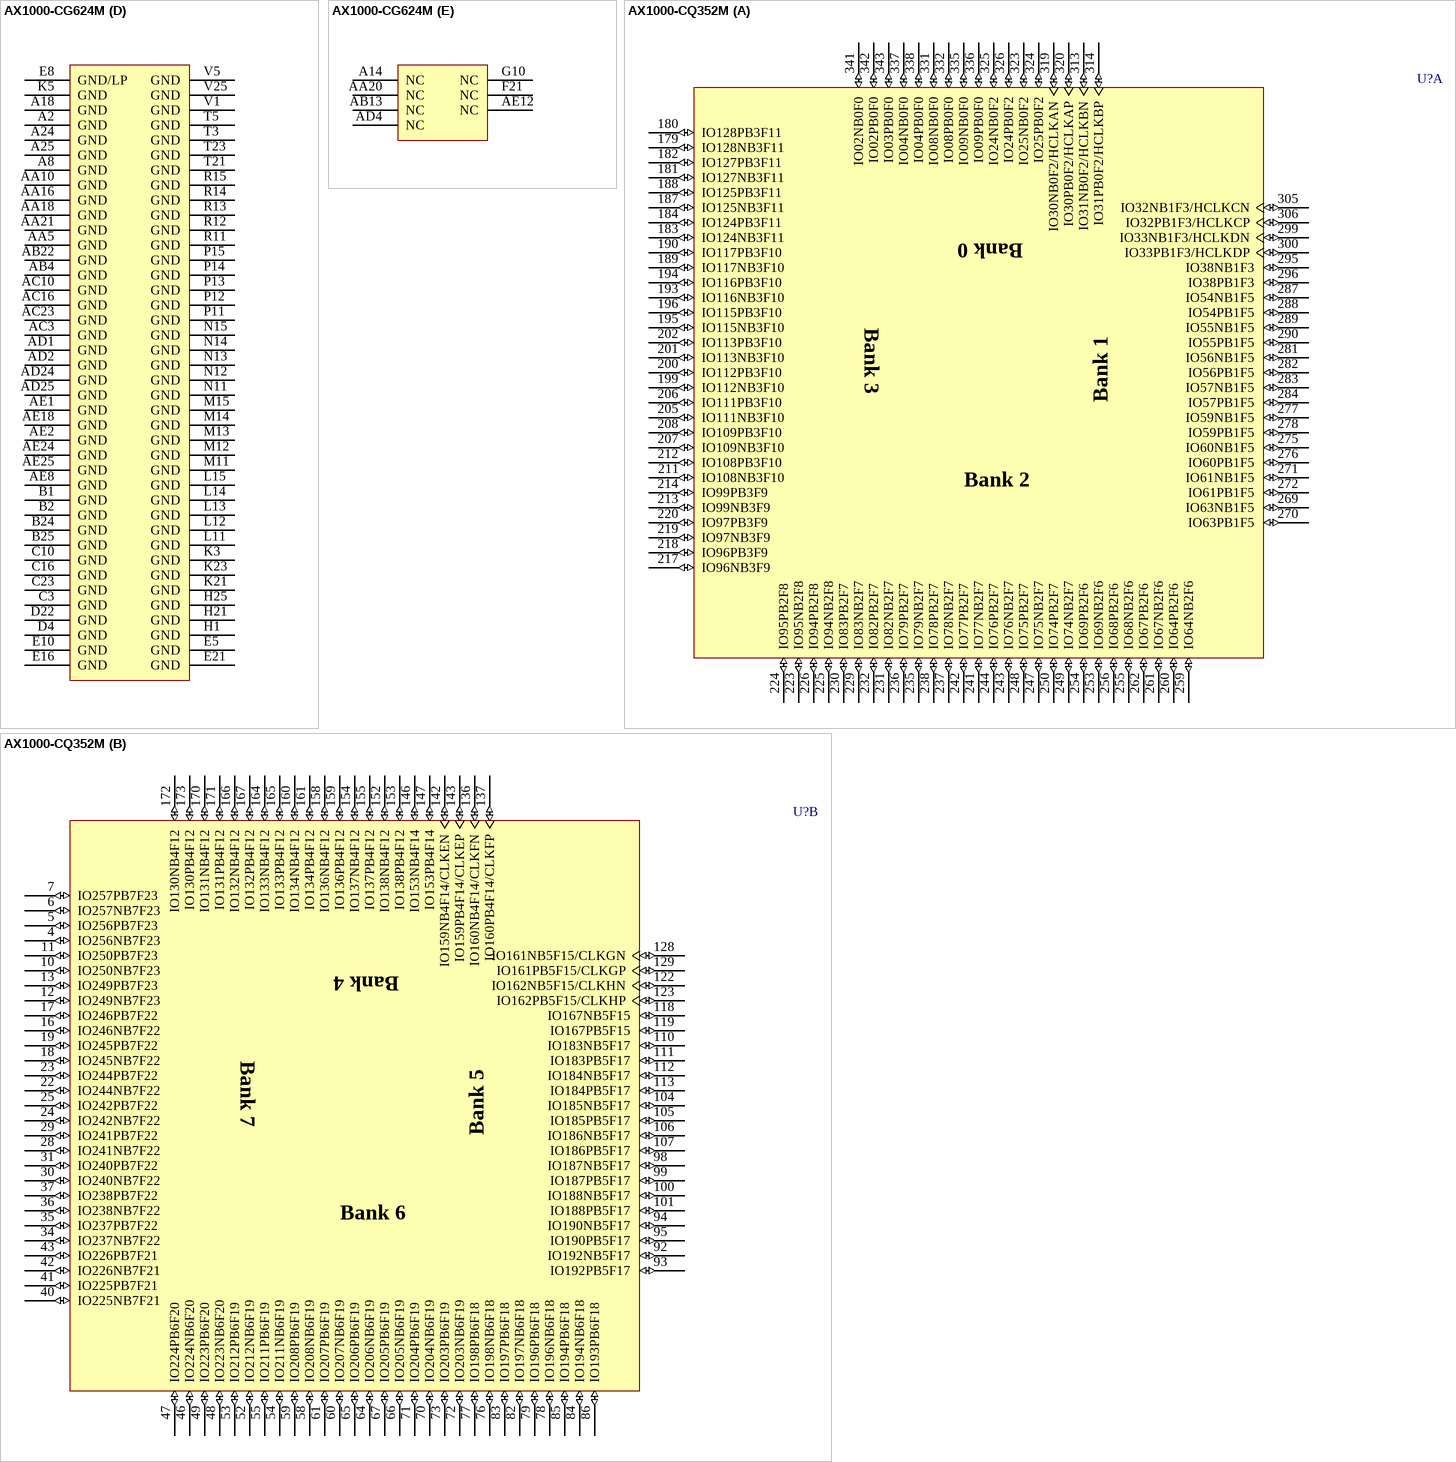
[diagram p326: symbols AX1000-CG624M to AX1000-CQ352M]